# Altium schematic symbol library Regulators.SchLib: 376 symbols (part 1 of 4)
Pins are listed as number, name and electrical type; pins without a type are passive.

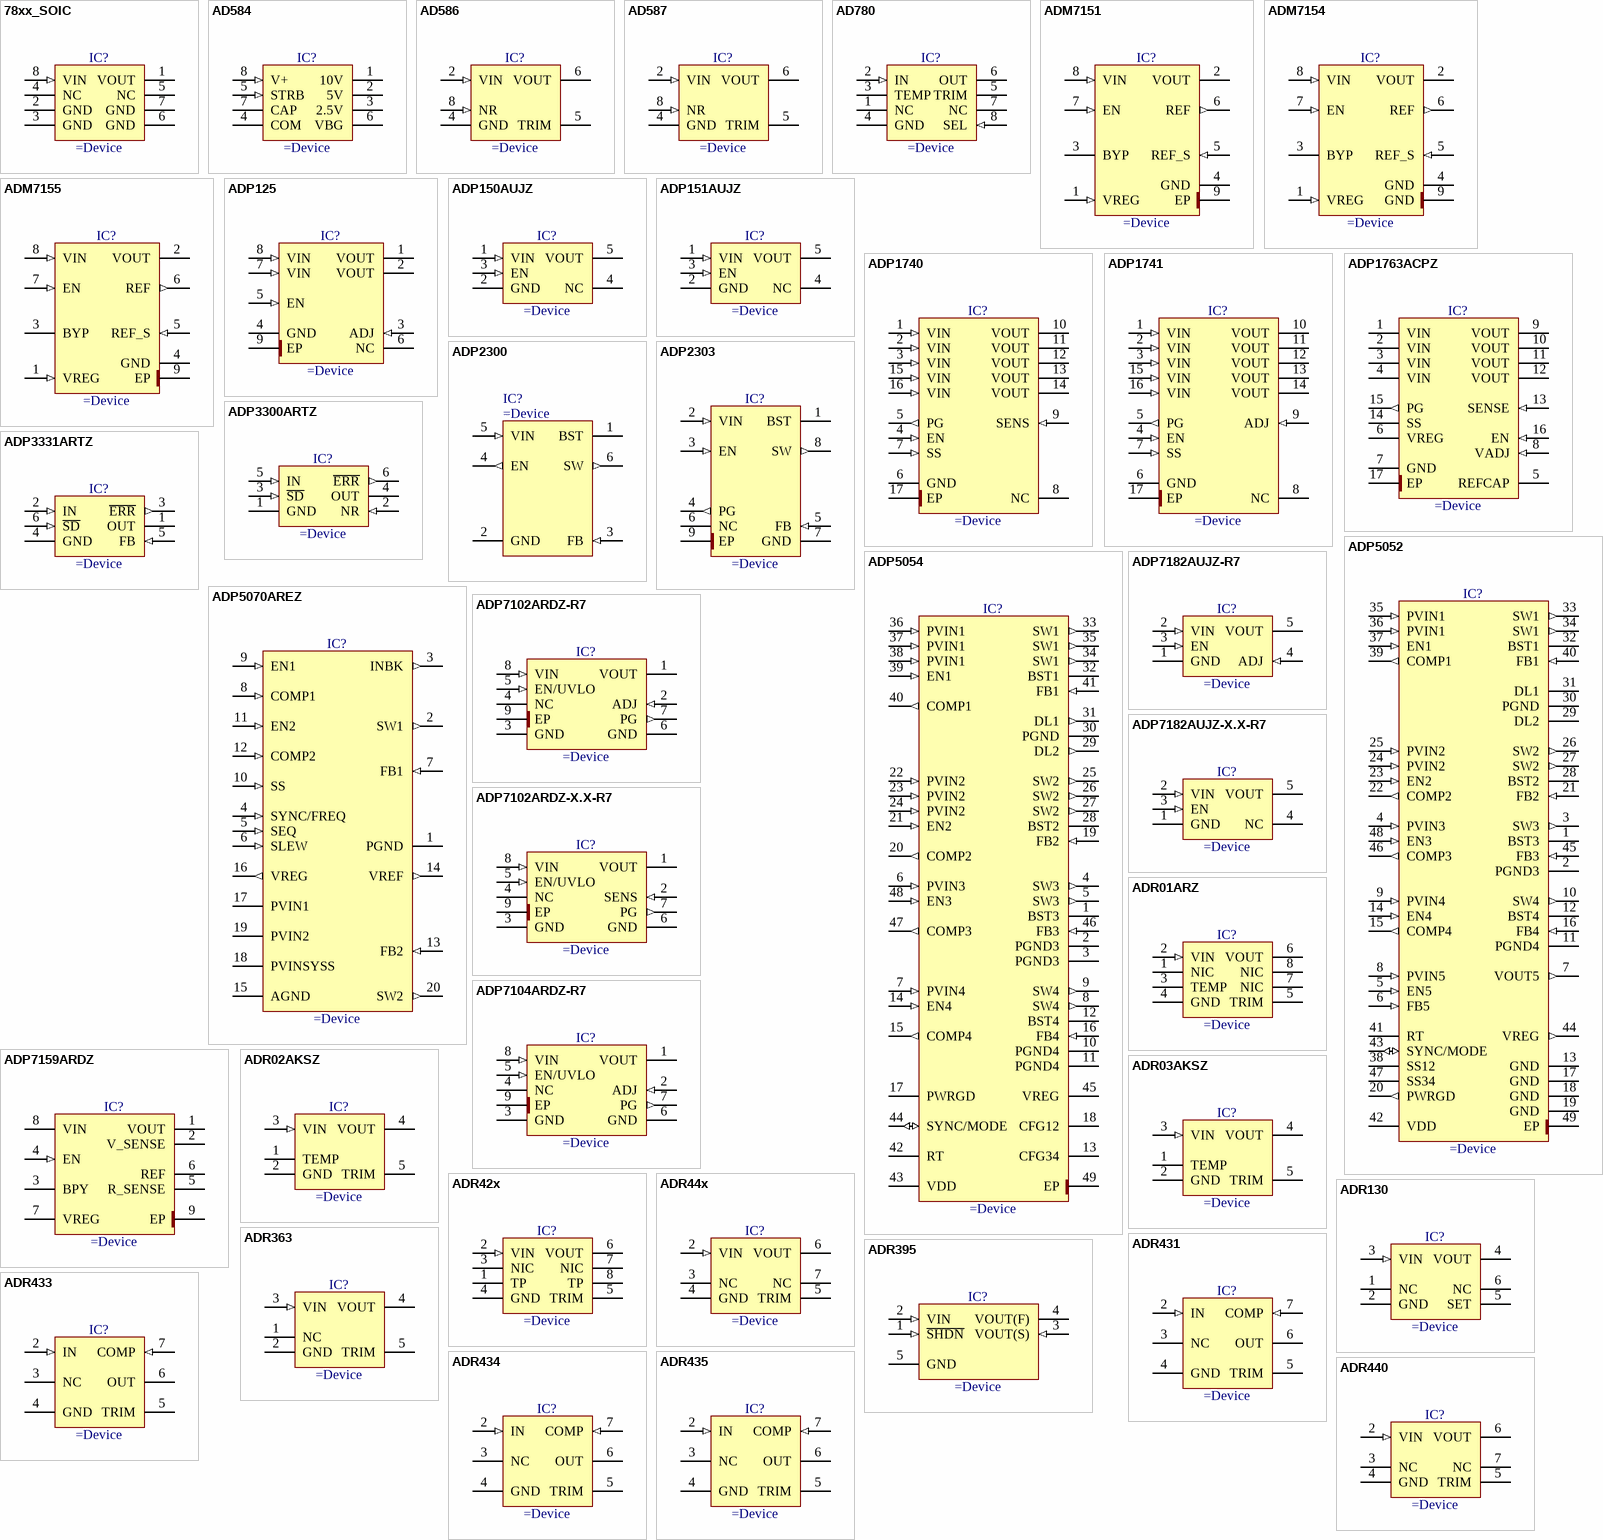
[diagram p0: symbols 78xx_SOIC to ADR440]

## 78xx_SOIC
designator IC?
100 mA Positive Voltage Regulators
pins: 1 VOUT (power), 2 GND (power), 3 GND (power), 4 NC, 5 NC, 6 GND (power), 7 GND (power), 8 VIN (in)

## AD584
designator IC?
Pin Programmable Precision Voltage Reference
pins: 1 10V (power), 2 5V (power), 3 2.5V (power), 4 COM (power), 5 STRB (in), 6 VBG (power), 7 CAP, 8 V+ (in)

## AD586
designator IC?
High Precision 5V Voltage Reference
pins: 2 VIN (in), 4 GND (power), 5 TRIM, 6 VOUT (power), 8 NR (in)

## AD587
designator IC?
High Precision 10V Voltage Reference
pins: 2 VIN (in), 4 GND (power), 5 TRIM, 6 VOUT (power), 8 NR (in)

## AD780
designator IC?
2.5V/3.0V High Precision Reference
pins: 1 NC, 2 IN (in), 3 TEMP, 4 GND (power), 5 TRIM, 6 OUT (power), 7 NC, 8 SEL (in)

## ADM7151
designator IC?
800 mA Ultralow Noise, High PSRR, RF Linear Regulator
pins: 1 VREG (in), 2 VOUT (power), 3 BYP, 4 GND (power), 5 REF_S (in), 6 REF (out), 7 EN (in), 8 VIN (in), 9 EP (power)

## ADM7154
designator IC?
800 mA Ultralow Noise, High PSRR, RF Linear Regulator
pins: 1 VREG (in), 2 VOUT (power), 3 BYP, 4 GND (power), 5 REF_S (in), 6 REF (out), 7 EN (in), 8 VIN (in), 9 GND (power)

## ADM7155
designator IC?
600mA Ultralow Noise, High PSRR, RF Adjustable Linear Regulator
pins: 1 VREG (in), 2 VOUT (power), 3 BYP, 4 GND (power), 5 REF_S (in), 6 REF (out), 7 EN (in), 8 VIN (in), 9 EP (power)

## ADP125
designator IC?
5.5 V Input, 500 mA, Low Quiescent Current, CMOS Linear Regulator
pins: 1 VOUT (power), 2 VOUT (power), 3 ADJ (in), 4 GND (power), 5 EN (in), 6 NC, 7 VIN (in), 8 VIN (in), 9 EP (power)

## ADP150AUJZ
designator IC?
Ultralow Noise, 150 mA CMOS Linear Regulator
pins: 1 VIN (in), 2 GND (power), 3 EN (in), 4 NC, 5 VOUT (power)

## ADP151AUJZ
designator IC?
Ultralow Noise, 200 mA CMOS Linear Regulator
pins: 1 VIN (in), 2 GND (power), 3 EN (in), 4 NC, 5 VOUT (power)

## ADP1740
designator IC?
2A, Low-Dropout Linear Regulator
pins: 1 VIN (in), 2 VIN (in), 3 VIN (in), 4 EN (in), 5 PG (out), 6 GND (power), 7 SS (in), 8 NC, 9 SENS (in), 10 VOUT (power), 11 VOUT (power), 12 VOUT (power), 13 VOUT (power), 14 VOUT (power), 15 VIN (in), 16 VIN (in), 17 EP (power)

## ADP1741
designator IC?
2A, 0.75V to 3.0V Adjustable, Low-Dropout Linear Regulator
pins: 1 VIN (in), 2 VIN (in), 3 VIN (in), 4 EN (in), 5 PG (out), 6 GND (power), 7 SS (in), 8 NC, 9 ADJ (in), 10 VOUT (power), 11 VOUT (power), 12 VOUT (power), 13 VOUT (power), 14 VOUT (power), 15 VIN (in), 16 VIN (in), 17 EP (power)

## ADP1763ACPZ
designator IC?
0.5V to 1.5V, 3A, Low VIN, Low Noise, CMOS Linear Regulator
pins: 1 VIN (power), 2 VIN (power), 3 VIN (power), 4 VIN (power), 5 REFCAP, 6 VREG (power), 7 GND (power), 8 VADJ (in), 9 VOUT (power), 10 VOUT (power), 11 VOUT (power), 12 VOUT (power), 13 SENSE (in), 14 SS, 15 PG (out), 16 EN (in), 17 EP (power)

## ADP2300
designator IC?
1.2A, 20V, 700KHz, Nonsynchronous Step-Down Regulator
pins: 1 BST, 2 GND (power), 3 FB (in), 4 EN (out), 5 VIN (in), 6 SW (out)
1 alternate drawing of the same symbol

## ADP2303
designator IC?
3A, 20V, 700kHz Nonsynchronous Step-Down Regulator
pins: 1 BST, 2 VIN (in), 3 EN (in), 4 PG (out), 5 FB (in), 6 NC, 7 GND (power), 8 SW (out), 9 EP (power)
1 alternate drawing of the same symbol

## ADP3300ARTZ
designator IC?
High Accuracy anyCAP® 50 mA Low Dropout Linear Regulator
pins: 1 GND (power), 2 NR (in), 3 ~{SD} (in), 4 OUT (power), 5 IN (in), 6 ~{ERR} (out)

## ADP3331ARTZ
designator IC?
Adjustable Output Ultralow IQ, 200 mA, anyCAP® Low Dropout Regulator
pins: 1 OUT (power), 2 IN (in), 3 ~{ERR} (out), 4 GND (power), 5 FB (in), 6 ~{SD} (in)

## ADP5052
designator IC?
5-Channel Integrated Power Solution with Quad buck Regulators and 200mA LDO Regulator
pins: 1 BST3 (power), 2 PGND3 (power), 3 SW3 (out), 4 PVIN3 (in), 5 EN5 (in), 6 FB5 (in), 7 VOUT5 (out), 8 PVIN5 (in), 9 PVIN4 (in), 10 SW4 (out), 11 PGND4 (power), 12 BST4 (power), 13 GND (power), 14 EN4 (in), 15 COMP4 (out), 16 FB4 (in), 17 GND (power), 18 GND (power), 19 GND (power), 20 PWRGD (out), 21 FB2 (in), 22 COMP2 (out), 23 EN2 (in), 24 PVIN2 (in), 25 PVIN2 (in), 26 SW2 (out), 27 SW2 (out), 28 BST2 (power), 29 DL2, 30 PGND (power), 31 DL1, 32 BST1 (power), 33 SW1 (out), 34 SW1 (out), 35 PVIN1 (in), 36 PVIN1 (in), 37 EN1 (in), 38 SS12, 39 COMP1 (out), 40 FB1 (in), 41 RT, 42 VDD (power), 43 SYNC/MODE (io), 44 VREG (out), 45 FB3 (in), 46 COMP3 (out), 47 SS34, 48 EN3 (in), 49 EP (power)
1 alternate drawing of the same symbol

## ADP5054
designator IC?
Quad Buck Regulator Integrated Power Solution
pins: 1 BST3 (power), 2 PGND3 (power), 3 PGND3 (power), 4 SW3 (out), 5 SW3 (out), 6 PVIN3 (in), 7 PVIN4 (in), 8 SW4 (out), 9 SW4 (out), 10 PGND4 (power), 11 PGND4 (power), 12 BST4 (power), 13 CFG34, 14 EN4 (in), 15 COMP4 (out), 16 FB4 (in), 17 PWRGD (power), 18 CFG12, 19 FB2 (in), 20 COMP2 (out), 21 EN2 (in), 22 PVIN2 (in), 23 PVIN2 (in), 24 PVIN2 (in), 25 SW2 (out), 26 SW2 (out), 27 SW2 (out), 28 BST2 (power), 29 DL2 (out), 30 PGND (power), 31 DL1 (out), 32 BST1 (power), 33 SW1 (out), 34 SW1 (out), 35 SW1 (out), 36 PVIN1 (in), 37 PVIN1 (in), 38 PVIN1 (in), 39 EN1 (in), 40 COMP1 (out), 41 FB1 (in), 42 RT, 43 VDD (power), 44 SYNC/MODE (io), 45 VREG (power), 46 FB3 (in), 47 COMP3 (out), 48 EN3 (in), 49 EP (power)
1 alternate drawing of the same symbol

## ADP5070AREZ
designator IC?
1A/0.6A, DC-to-DC Switching Regulator with Independent Positive and Negative Outputs
pins: 1 PGND (power), 2 SW1 (out), 3 INBK (out), 4 SYNC/FREQ (in), 5 SEQ (in), 6 SLEW (in), 7 FB1 (in), 8 COMP1 (in), 9 EN1 (in), 10 SS (in), 11 EN2 (in), 12 COMP2 (in), 13 FB2 (in), 14 VREF (out), 15 AGND (power), 16 VREG (out), 17 PVIN1 (power), 18 PVINSYSS (power), 19 PVIN2 (power), 20 SW2 (out)

## ADP7102ARDZ-R7
designator IC?
1.22V to 19V, 300mA, Low Noise, CMOS LDO Adjustable Linear Regulator
pins: 1 VOUT (power), 2 ADJ (in), 3 GND (power), 4 NC, 5 EN/UVLO (in), 6 GND (power), 7 PG (out), 8 VIN (in), 9 EP (power)

## ADP7102ARDZ-X.X-R7
designator IC?
300 mA, Low Noise, CMOS LDO Linear Regulator
pins: 1 VOUT (power), 2 SENS (in), 3 GND (power), 4 NC, 5 EN/UVLO (in), 6 GND (power), 7 PG (out), 8 VIN (in), 9 EP (power)

## ADP7104ARDZ-R7
designator IC?
20V, 500mA, Low Noise, CMOS LDO Linear Regulator
pins: 1 VOUT (power), 2 ADJ (in), 3 GND (power), 4 NC, 5 EN/UVLO (in), 6 GND (power), 7 PG (out), 8 VIN (in), 9 EP (power)

## ADP7159ARDZ
designator IC?
2A, Ultralow Noise, High PSRR, RF Linear Regulator
pins: 1 VOUT (power), 2 V_SENSE (power), 3 BPY, 4 EN (in), 5 R_SENSE (power), 6 REF (power), 7 VREG, 8 VIN (power), 9 EP (power)

## ADP7182AUJZ-R7
designator IC?
-1.22V to -27V, -200mA, Adjustable, Low Noise, Negative Linear Regulator
pins: 1 GND (power), 2 VIN (in), 3 EN (in), 4 ADJ (in), 5 VOUT (power)

## ADP7182AUJZ-X.X-R7
designator IC?
–5V, 200 mA, Low Noise, Linear Regulator
pins: 1 GND (power), 2 VIN (in), 3 EN (in), 4 NC, 5 VOUT (power)

## ADR01ARZ
designator IC?
Ultracompact, Precision 10.0V Voltage References
pins: 1 NIC, 2 VIN (in), 3 TEMP, 4 GND (power), 5 TRIM, 6 VOUT (power), 7 NIC, 8 NIC

## ADR02AKSZ
designator IC?
Ultracompact, Precision 5.0V Voltage References
pins: 1 TEMP, 2 GND (power), 3 VIN (in), 4 VOUT (power), 5 TRIM

## ADR03AKSZ
designator IC?
Ultracompact, Precision 2.5V Voltage References
pins: 1 TEMP, 2 GND (power), 3 VIN (in), 4 VOUT (power), 5 TRIM

## ADR42x
designator IC?
Ultraprecision, Low Noise, 2.048 V/2.500 V/  3.00 V/5.00 V XFET Voltage References
pins: 1 TP, 2 VIN (in), 3 NIC, 4 GND (power), 5 TRIM, 6 VOUT (power), 7 NIC, 8 TP

## ADR44x
designator IC?
5V Ultralow Noise, LDO XFET Voltage References with Current Sink and Source
pins: 2 VIN (in), 3 NC, 4 GND (power), 5 TRIM, 6 VOUT (power), 7 NC

## ADR130
designator IC?
±25ppm/°C, Precision Series Sub-Band Gap Voltage Reference
pins: 1 NC, 2 GND (power), 3 VIN (in), 4 VOUT (power), 5 SET, 6 NC

## ADR363
designator IC?
3V, ±25ppm/°C, ±6mV Low Power, Low Noise Voltage References with Sink/Source Capability
pins: 1 NC, 2 GND (power), 3 VIN (in), 4 VOUT (power), 5 TRIM

## ADR395
designator IC?
5V Micropower, Low Noise Precision Voltage References with Shutdown
pins: 1 ~{SHDN} (in), 2 VIN (in), 3 VOUT(S) (in), 4 VOUT(F) (power), 5 GND (power)

## ADR431
designator IC?
2.5V ±0.12% 10ppm/°C Ultralow Noise XFET Voltage References with Current Sink and Source Capability
pins: 2 IN (in), 3 NC, 4 GND (power), 5 TRIM, 6 OUT (power), 7 COMP (in)

## ADR433
designator IC?
3.000V ±0.05% 3ppm/°C Ultralow Noise XFET Voltage Reference with Current Sink and Source Capability
pins: 2 IN (in), 3 NC, 4 GND (power), 5 TRIM, 6 OUT (power), 7 COMP (in)

## ADR434
designator IC?
4.096V ±0.04% 3ppm/°C 4.096V Ultralow Noise XFET Voltage References with Current Sink and Source Capability
pins: 2 IN (in), 3 NC, 4 GND (power), 5 TRIM, 6 OUT (power), 7 COMP (in)

## ADR435
designator IC?
5V Ultralow Noise XFET Voltage References with Current Sink and Source Capability
pins: 2 IN (in), 3 NC, 4 GND (power), 5 TRIM, 6 OUT (power), 7 COMP (in)

## ADR440
designator IC?
2.048V Ultralow Noise, LDO XFET Voltage Reference with Current Sink and Source
pins: 2 VIN (in), 3 NC, 4 GND (power), 5 TRIM, 6 VOUT (power), 7 NC

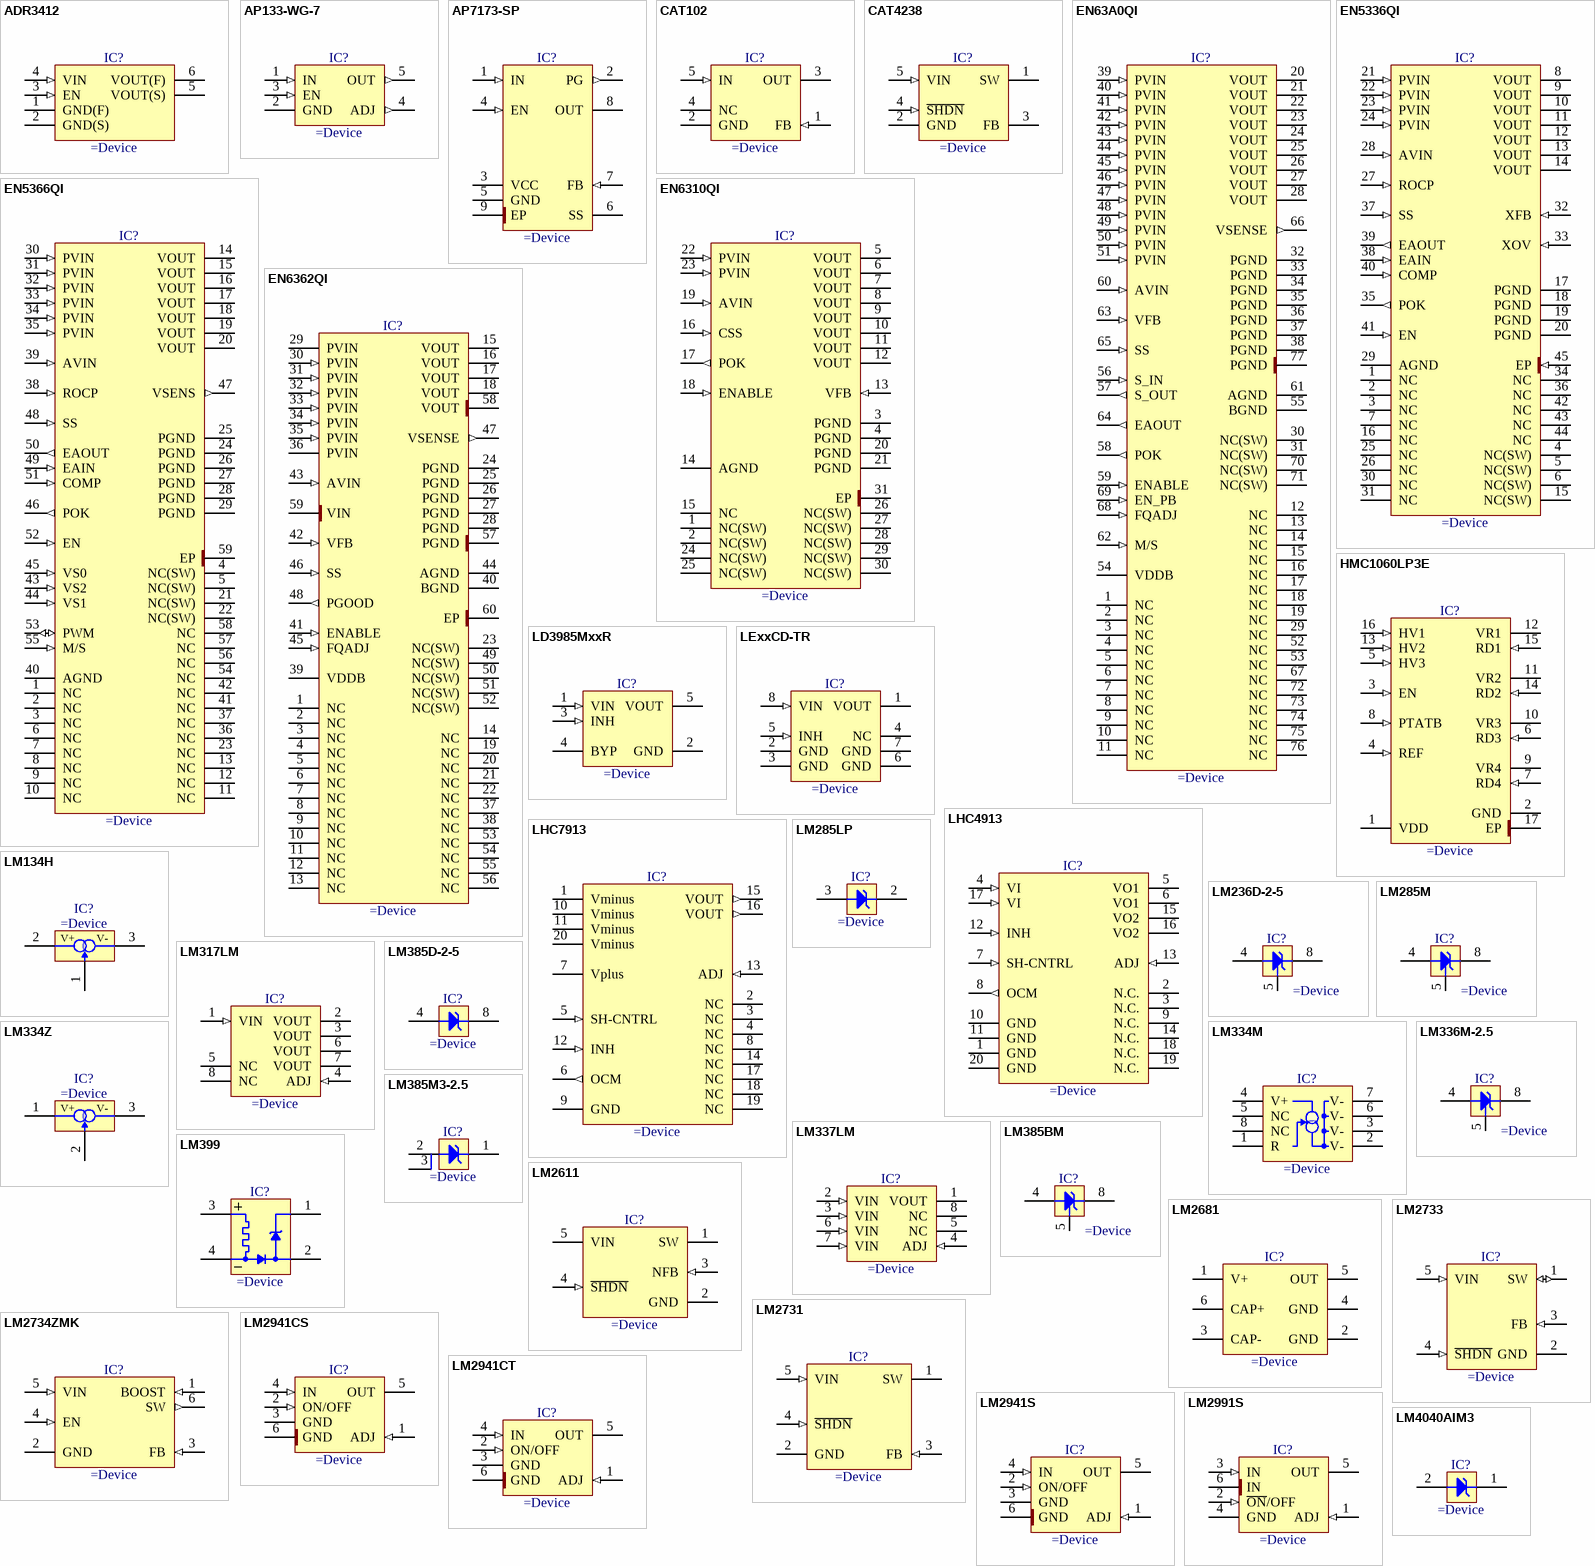
[diagram p1: symbols ADR3412 to LM4040AIM3]

## ADR3412
designator IC?
1.2V Micropower, High Accuracy Voltage References
pins: 1 GND(F) (power), 2 GND(S) (power), 3 EN (in), 4 VIN (in), 5 VOUT(S) (power), 6 VOUT(F) (power)

## AP133-WG-7
designator IC?
300mA, Low Quiecent Current, Fast Transient Low Dropout Linear Regulator
pins: 1 IN (in), 2 GND (power), 3 EN (in), 4 ADJ (out), 5 OUT (out)

## AP7173-SP
designator IC?
1.5A 0.8V to 3.3V Low-Dropout Linear Regulator with Programmable Soft-Start
pins: 1 IN (in), 2 PG (out), 3 VCC (power), 4 EN (in), 5 GND (power), 6 SS, 7 FB (in), 8 OUT (power), 9 EP (power)

## CAT102
designator IC?
Precision, Adjustable Shunt Regulator (600mV Reference)
pins: 1 FB (in), 2 GND (power), 3 OUT (power), 4 NC, 5 IN (in)

## CAT4238
designator IC?
(Up to 5.5V) Input  to (0 to 38V) Output, 600mA, 1MHz DC-DC  Step-Up Converters (Ideal For Driving LEDs)
pins: 1 SW (power), 2 GND (power), 3 FB, 4 ~{SHDN} (in), 5 VIN (in)

## EN63A0QI
designator IC?
12A Highly Integrated Synchronous DC-DC Buck with Integrated Inductor
pins: 1 NC, 2 NC, 3 NC, 4 NC, 5 NC, 6 NC, 7 NC, 8 NC, 9 NC, 10 NC, 11 NC, 12 NC, 13 NC, 14 NC (power), 15 NC, 16 NC, 17 NC, 18 NC, 19 NC (power), 20 VOUT (power), 21 VOUT (power), 22 VOUT (power), 23 VOUT (power), 24 VOUT (power), 25 VOUT (power), 26 VOUT (power), 27 VOUT (power), 28 VOUT (power), 29 NC (power), 30 NC(SW), 31 NC(SW), 32 PGND (power), 33 PGND (power), 34 PGND (power), 35 PGND (power), 36 PGND (power), 37 PGND (power), 38 PGND (power), 39 PVIN (in), 40 PVIN (in), 41 PVIN (in), 42 PVIN (in), 43 PVIN (in), 44 PVIN (in), 45 PVIN (in), 46 PVIN (in), 47 PVIN (in), 48 PVIN (in), 49 PVIN (in), 50 PVIN (in), 51 PVIN (in), 52 NC, 53 NC, 54 VDDB (power), 55 BGND (power), 56 S_IN (in), 57 S_OUT (out), 58 POK (out), 59 ENABLE (in), 60 AVIN (in), 61 AGND (power), 62 M/S (in), 63 VFB (in), 64 EAOUT (out), 65 SS (in), 66 VSENSE (out), 67 NC, 68 FQADJ (in), 69 EN_PB (in), 70 NC(SW), 71 NC(SW), 72 NC, 73 NC, 74 NC (power), 75 NC, 76 NC, 77 PGND (power)

## EN5336QI
designator IC?
3A Voltage Mode Synchronous Buck PWM DC-DC Converter with Integrated Inductor External Feedback Output Voltage Programming
pins: 1 NC, 2 NC, 3 NC, 4 NC(SW), 5 NC(SW), 6 NC(SW), 7 NC, 8 VOUT (power), 9 VOUT (power), 10 VOUT (power), 11 VOUT (power), 12 VOUT (power), 13 VOUT (power), 14 VOUT (power), 15 NC(SW), 16 NC, 17 PGND (power), 18 PGND (power), 19 PGND (power), 20 PGND (power), 21 PVIN (in), 22 PVIN (in), 23 PVIN (in), 24 PVIN (in), 25 NC, 26 NC, 27 ROCP (in), 28 AVIN (in), 29 AGND (power), 30 NC, 31 NC, 32 XFB (in), 33 XOV (in), 34 NC, 35 POK (out), 36 NC, 37 SS (in), 38 EAIN (in), 39 EAOUT (out), 40 COMP (in), 41 EN (in), 42 NC, 43 NC, 44 NC, 45 EP (in)

## EN5366QI
designator IC?
6A Voltage Mode Synchronous Buck PWM DC-DC Converter with Integrated Inductor 3-Pin VID Output Voltage Select
pins: 1 NC, 2 NC, 3 NC, 4 NC(SW), 5 NC(SW), 6 NC, 7 NC, 8 NC, 9 NC, 10 NC, 11 NC, 12 NC, 13 NC, 14 VOUT (power), 15 VOUT (power), 16 VOUT (power), 17 VOUT (power), 18 VOUT (power), 19 VOUT (power), 20 VOUT (power), 21 NC(SW), 22 NC(SW), 23 NC, 24 PGND (power), 25 PGND (power), 26 PGND (power), 27 PGND (power), 28 PGND (power), 29 PGND (power), 30 PVIN (in), 31 PVIN (in), 32 PVIN (in), 33 PVIN (in), 34 PVIN (in), 35 PVIN (in), 36 NC, 37 NC, 38 ROCP (in), 39 AVIN (in), 40 AGND (power), 41 NC, 42 NC, 43 VS2 (in), 44 VS1 (in), 45 VS0 (in), 46 POK (out), 47 VSENS (out), 48 SS (in), 49 EAIN (in), 50 EAOUT (out), 51 COMP (in), 52 EN (in), 53 PWM (io), 54 NC, 55 M/S (in), 56 NC, 57 NC, 58 NC, 59 EP (power)

## EN6310QI
designator IC?
1A Voltage Mode Synchronous Buck PWM DC-DC Converter With Integrated Inductor
pins: 1 NC(SW), 2 NC(SW), 3 PGND (power), 4 PGND (power), 5 VOUT (power), 6 VOUT (power), 7 VOUT (power), 8 VOUT (power), 9 VOUT (power), 10 VOUT (power), 11 VOUT (power), 12 VOUT (power), 13 VFB (in), 14 AGND (power), 15 NC, 16 CSS (in), 17 POK (out), 18 ENABLE (in), 19 AVIN (in), 20 PGND (power), 21 PGND (power), 22 PVIN (in), 23 PVIN (in), 24 NC(SW), 25 NC(SW), 26 NC(SW), 27 NC(SW), 28 NC(SW), 29 NC(SW) (power), 30 NC(SW), 31 EP (power)

## EN6362QI
designator IC?
6A Highly Integrated Synchronous DC-DC Buck with Integrated Inductor
pins: 1 NC, 2 NC, 3 NC, 4 NC, 5 NC, 6 NC, 7 NC, 8 NC, 9 NC, 10 NC, 11 NC, 12 NC, 13 NC, 14 NC (power), 15 VOUT (power), 16 VOUT (power), 17 VOUT (power), 18 VOUT (power), 19 NC (power), 20 NC (power), 21 NC, 22 NC, 23 NC(SW), 24 PGND (power), 25 PGND (power), 26 PGND (power), 27 PGND (power), 28 PGND (power), 29 PVIN (power), 30 PVIN (in), 31 PVIN (in), 32 PVIN (in), 33 PVIN (in), 34 PVIN (in), 35 PVIN (in), 36 PVIN, 37 NC, 38 NC, 39 VDDB (power), 40 BGND (power), 41 ENABLE (in), 42 VFB (in), 43 AVIN (in), 44 AGND (power), 45 FQADJ (in), 46 SS (in), 47 VSENSE (out), 48 PGOOD (out), 49 NC(SW), 50 NC(SW), 51 NC(SW), 52 NC(SW), 53 NC, 54 NC, 55 NC, 56 NC, 57 PGND (power), 58 VOUT (power), 59 VIN (power), 60 EP (power)

## HMC1060LP3E
designator IC?
Quad Low Noise High PSRR Linear Voltage Regulator
pins: 1 VDD (power), 2 GND (power), 3 EN (in), 4 REF (in), 5 HV3 (in), 6 RD3 (in), 7 RD4 (in), 8 PTATB (in), 9 VR4 (power), 10 VR3 (power), 11 VR2 (power), 12 VR1 (power), 13 HV2 (in), 14 RD2 (in), 15 RD1 (in), 16 HV1 (in), 17 EP (power)

## LD3985MxxR
designator IC?
Ultra low drop-low noise BiCMOS voltage regulators low ESR capacitors compatible
pins: 1 VIN (in), 2 GND (power), 3 INH (in), 4 BYP, 5 VOUT (power)

## LExxCD-TR
designator IC?
Very Low Dropout Voltage Regulator with Inhibit Function
pins: 1 VOUT (power), 2 GND (power), 3 GND (power), 4 NC, 5 INH (in), 6 GND (power), 7 GND (power), 8 VIN (in)

## LHC4913
designator IC?
3A Positive Low Drop Adjustable Voltage Regulator With Inhibit Function
pins: 1 GND (power), 2 N.C., 3 N.C., 4 VI (in), 5 VO1 (power), 6 VO1 (power), 7 SH-CNTRL (in), 8 OCM (out), 9 N.C., 10 GND, 11 GND, 12 INH (in), 13 ADJ (in), 14 N.C., 15 VO2 (power), 16 VO2 (power), 17 VI (in), 18 N.C., 19 N.C., 20 GND (power)

## LHC7913
designator IC?
3A Negative Low Drop Adjustable Voltage Regulator With Inhibit Function
pins: 1 Vminus (power), 2 NC, 3 NC, 4 NC, 5 SH-CNTRL (in), 6 OCM (out), 7 Vplus (power), 8 NC, 9 GND (power), 10 Vminus (power), 11 Vminus (power), 12 INH (in), 13 ADJ (in), 14 NC, 15 VOUT (out), 16 VOUT (out), 17 NC, 18 NC, 19 NC, 20 Vminus (power)

## LM134H
designator IC?
Adjustable Current Sources
pins: 1 R, 2 R, 3 V-
text: V+

## LM236D-2-5
designator IC?
2.5V Integrated Reference Circuit
pins: 4 A, 5 Adj (power), 8 C

## LM285LP
designator IC?
Micropower Voltage References
pins: 2 C, 3 A

## LM285M
designator IC?
1.24V to 5.30V Adjustable Micropower Voltage References
pins: 4 A, 5 Adj (power), 8 C

## LM317LM
designator IC?
1.2V to 37V, 100mA Adjustable Positive Regulator
pins: 1 VIN (in), 2 VOUT (power), 3 VOUT (power), 4 ADJ (in), 5 NC, 6 VOUT (power), 7 VOUT (power), 8 NC

## LM334M
designator IC?
Adjustable Current Sources
pins: 1 R, 2 V-, 3 V-, 4 V+, 5 NC, 6 V-, 7 V-, 8 NC

## LM334Z
designator IC?
Adjustable Current Sources
pins: 1 V+, 2 R, 3 V-

## LM336M-2.5
designator IC?
Reference Diode
pins: 4 A, 5 Adj, 8 C

## LM337LM
designator IC?
1.2V to 37V, 100mA Adjustable Negative Regulator
pins: 1 VOUT (power), 2 VIN (in), 3 VIN (in), 4 ADJ (in), 5 NC, 6 VIN (in), 7 VIN (in), 8 NC

## LM385BM
designator IC?
1.24V to 5.30V Adjustable Micropower Voltage Reference
pins: 4 A, 5 Adj, 8 C

## LM385D-2-5
designator IC?
Micropower Voltage References
pins: 4 A, 8 C

## LM385M3-2.5
designator IC?
Micropower Voltage Reference Diode
pins: 1 C, 2 A, 3 A

## LM399
designator IC?
6.95V Precision Shunt Reference
pins: 1 C, 2 A, 3 +, 4 -

## LM2611
designator IC?
1.4MHz Cuk Converter
pins: 1 SW (power), 2 GND (power), 3 NFB (in), 4 ~{SHDN} (in), 5 VIN (power)

## LM2681
designator IC?
Switched Capacitor Voltage Converter
pins: 1 V+ (power), 2 GND (power), 3 CAP-, 4 GND (power), 5 OUT (power), 6 CAP+

## LM2731
designator IC?
0.0.6MHz Boost Converters With 22V Internal FET Switch
pins: 1 SW (oc), 2 GND (power), 3 FB (in), 4 ~{SHDN} (in), 5 VIN (in)

## LM2733
designator IC?
0.6/1.6 MHz Boost Converters With 40V Internal FET Switch in SOT-23
pins: 1 SW (io) "Drain of the internal FET switch.", 2 GND (power) "Analog and power ground.", 3 FB (in) "Feedback point that connects to external resistive divider.", 4 ~{SHDN} (in) "Shutdown control input. Connect to VIN if this feature is not used.", 5 VIN (in) "Analog and power input."

## LM2734ZMK
designator IC?
1A Load Step-Down DC-DC Regulator
pins: 1 BOOST (in), 2 GND (power), 3 FB (in), 4 EN (in), 5 VIN (in), 6 SW (out)

## LM2941CS
designator IC?
5V to 20V, 1A Low Dropout Adjustable Regulator
pins: 1 ADJ (in), 2 ON/OFF (in), 3 GND (power), 4 IN (in), 5 OUT (power), 6 GND (power)

## LM2941CT
designator IC?
5V to 20V, 1A Low Dropout Adjustable Regulator
pins: 1 ADJ (in), 2 ON/OFF (in), 3 GND (power), 4 IN (in), 5 OUT (power), 6 GND (power)

## LM2941S
designator IC?
5V to 20V, 1A Low Dropout Adjustable Regulator
pins: 1 ADJ (in), 2 ON/OFF (in), 3 GND (power), 4 IN (in), 5 OUT (power), 6 GND (power)

## LM2991S
designator IC?
-3V to -24V, 1A Negative Low Dropout Adjustable Regulator
pins: 1 ADJ (in), 2 ~{ON}/OFF (in), 3 IN (in), 4 GND (power), 5 OUT (power), 6 IN (power)

## LM4040AIM3
designator IC?
Precision Micropower Shunt Voltage Reference
pins: 1 C, 2 A

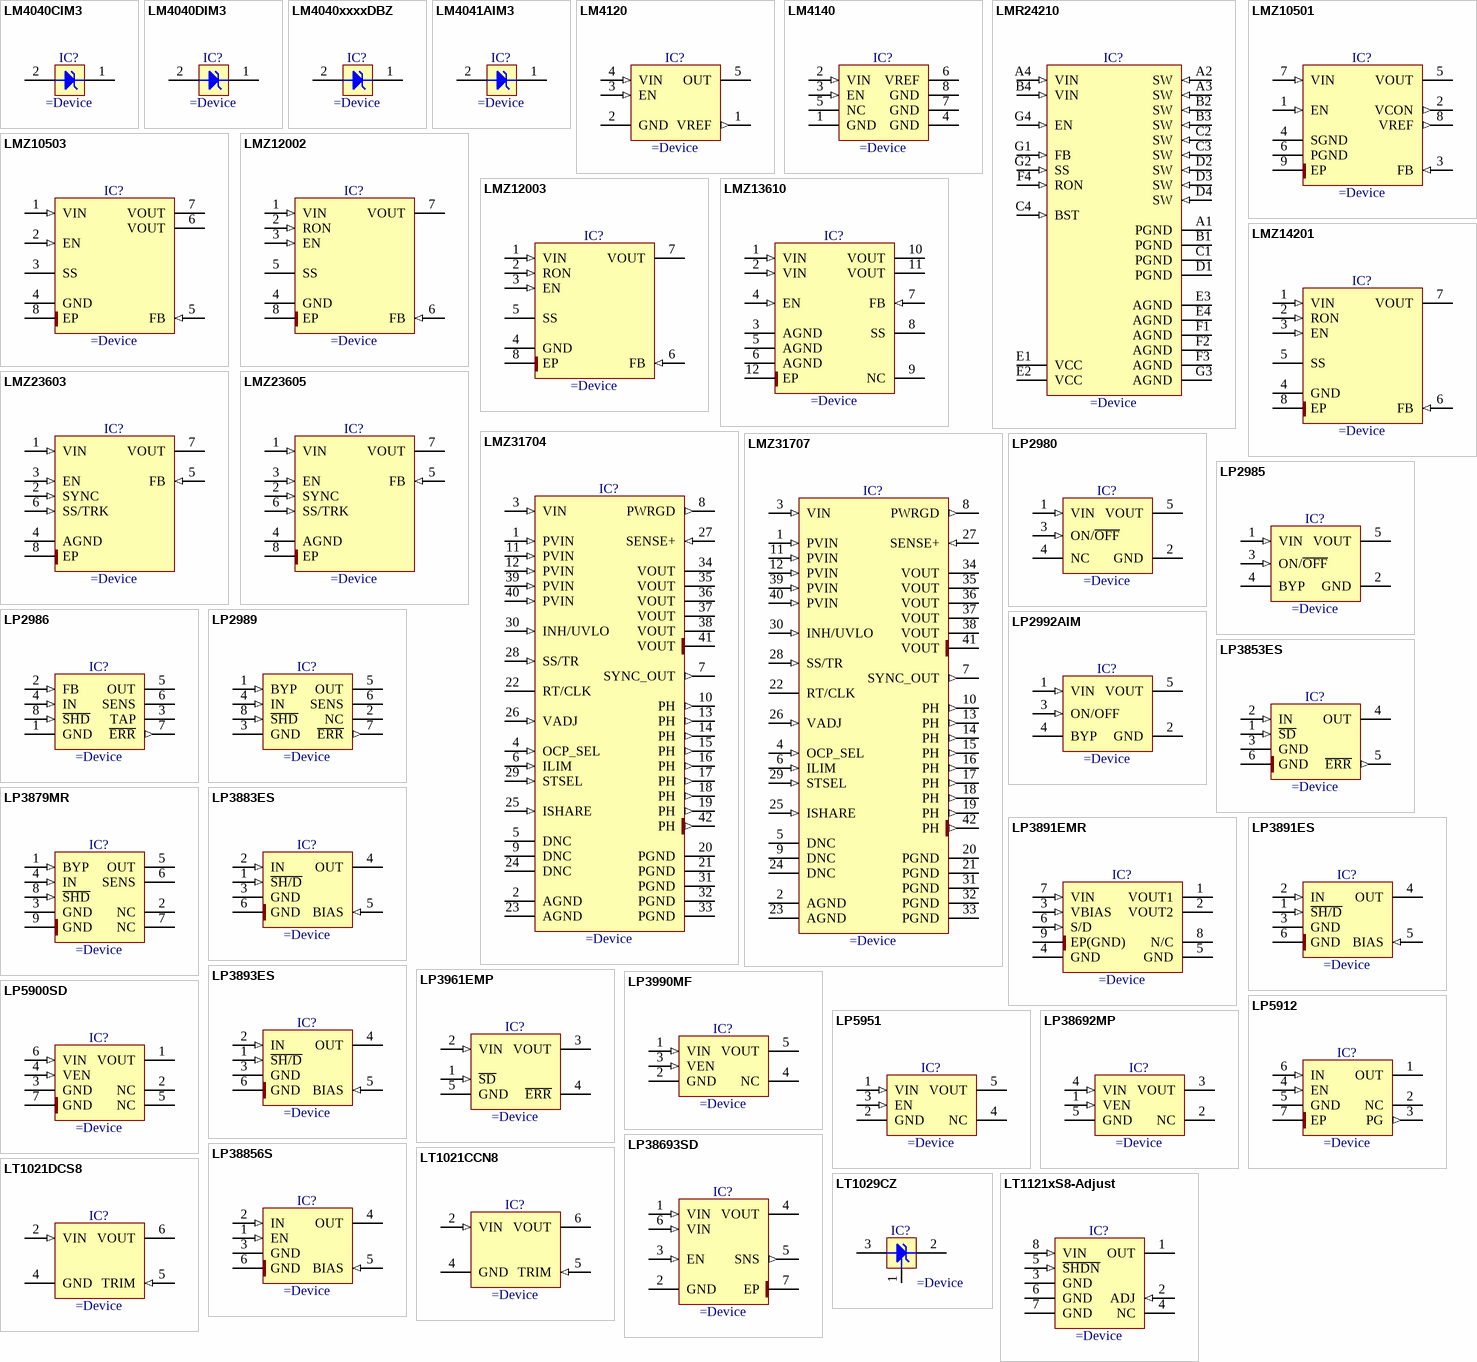
[diagram p2: symbols LM4040CIM3 to LT1121xS8-Adjust]

## LM4040CIM3
designator IC?
Precision Micropower Shunt Voltage Reference
pins: 1 C, 2 A

## LM4040DIM3
designator IC?
Precision Micropower Shunt Voltage Reference
pins: 1 C, 2 A

## LM4040xxxxDBZ
designator IC?
Precision Micropower Shunt Voltage Reference
pins: 1 C, 2 A

## LM4041AIM3
designator IC?
Precision Micropower Shunt Voltage Reference
pins: 1 C, 2 A

## LM4120
designator IC?
Precision Micropower Low Dropout Voltage Reference
pins: 1 VREF (out), 2 GND (power), 3 EN (in), 4 VIN (in), 5 OUT (power)

## LM4140
designator IC?
High Precision Low Noise Low Dropout Voltage Reference
pins: 1 GND (power), 2 VIN (in), 3 EN (in), 4 GND (power), 5 NC, 6 VREF (power), 7 GND (power), 8 GND (power)

## LMR24210
designator IC?
1A SIMPLE SWITCHER® 42Vin, Step-Down Voltage Regulator
pins: A1 PGND (power), A2 SW (in), A3 SW (in), A4 VIN (in), B1 PGND (power), B2 SW (in), B3 SW (in), B4 VIN (in), C1 PGND (power), C2 SW (in), C3 SW (in), C4 BST (in), D1 PGND (power), D2 SW (in), D3 SW (in), D4 SW (in), E1 VCC (power), E2 VCC (power), E3 AGND (power), E4 AGND (power), F1 AGND (power), F2 AGND (power), F3 AGND (power), F4 RON (in), G1 FB (in), G2 SS (in), G3 AGND (power), G4 EN (in)

## LMZ10501
designator IC?
1A SIMPLE SWITCHER® Nano Module with 5.5V Maximum Input Voltage
pins: 1 EN (in), 2 VCON (out), 3 FB (in), 4 SGND (power), 5 VOUT (power), 6 PGND (power), 7 VIN (in), 8 VREF (out), 9 EP (power)

## LMZ10503
designator IC?
3A SIMPLE SWITCHER® Power Module with 5.5V Maximum Input Voltage
pins: 1 VIN (in), 2 EN (in), 3 SS, 4 GND (power), 5 FB (in), 6 VOUT (power), 7 VOUT (power), 8 EP (power)

## LMZ12002
designator IC?
2A SIMPLE SWITCHER® Power Module with 20V Maximum Input Voltage
pins: 1 VIN (in), 2 RON (in), 3 EN (in), 4 GND (power), 5 SS, 6 FB (in), 7 VOUT (power), 8 EP (power)

## LMZ12003
designator IC?
3A SIMPLE SWITCHER® Power Module with 20V Maximum Input Voltage
pins: 1 VIN (in), 2 RON (in), 3 EN (in), 4 GND (power), 5 SS, 6 FB (in), 7 VOUT (power), 8 EP (power)

## LMZ13610
designator IC?
10A SIMPLE SWITCHER® Power Module with 36V Maximum Input Voltage
pins: 1 VIN (in), 2 VIN (in), 3 AGND (power), 4 EN (in), 5 AGND (power), 6 AGND (power), 7 FB (in), 8 SS, 9 NC, 10 VOUT (power), 11 VOUT (power), 12 EP (power)

## LMZ14201
designator IC?
1A SIMPLE SWITCHER® Power Module with 42V Maximum Input Voltage
pins: 1 VIN (in), 2 RON (in), 3 EN (in), 4 GND (power), 5 SS, 6 FB (in), 7 VOUT (power), 8 EP (power)

## LMZ23603
designator IC?
3A SIMPLE SWITCHER® Power Module with 37V Maximum Input Voltage
pins: 1 VIN (in), 2 SYNC (in), 3 EN (in), 4 AGND (power), 5 FB (in), 6 SS/TRK (in), 7 VOUT (power), 8 EP (power)

## LMZ23605
designator IC?
5A SIMPLE SWITCHER® Power Module with 37V Maximum Input Voltage
pins: 1 VIN (in), 2 SYNC (in), 3 EN (in), 4 AGND (power), 5 FB (in), 6 SS/TRK (in), 7 VOUT (power), 8 EP (power)

## LMZ31704
designator IC?
4A SIMPLE SWITCHER® Power Module with 2.95V-17V Input and Current Sharing
pins: 1 PVIN (in), 2 AGND (power), 3 VIN (in), 4 OCP_SEL (in), 5 DNC, 6 ILIM (in), 7 SYNC_OUT (out), 8 PWRGD (out), 9 DNC, 10 PH (out), 11 PVIN (in), 12 PVIN (in), 13 PH (out), 14 PH (out), 15 PH (out), 16 PH (out), 17 PH (out), 18 PH (out), 19 PH (out), 20 PGND (power), 21 PGND (power), 22 RT/CLK (oc), 23 AGND (power), 24 DNC, 25 ISHARE (in), 26 VADJ (in), 27 SENSE+ (in), 28 SS/TR (in), 29 STSEL (in), 30 INH/UVLO (in), 31 PGND (power), 32 PGND (power), 33 PGND (power), 34 VOUT (power), 35 VOUT (power), 36 VOUT (power), 37 VOUT (power), 38 VOUT (power), 39 PVIN (in), 40 PVIN (in), 41 VOUT (power), 42 PH (out)

## LMZ31707
designator IC?
7A SIMPLE SWITCHER® Power Module with 2.95V-17V Input and Current Sharing in QFN Package
pins: 1 PVIN (in), 2 AGND (power), 3 VIN (in), 4 OCP_SEL (in), 5 DNC, 6 ILIM (in), 7 SYNC_OUT (out), 8 PWRGD (out), 9 DNC, 10 PH (out), 11 PVIN (in), 12 PVIN (in), 13 PH (out), 14 PH (out), 15 PH (out), 16 PH (out), 17 PH (out), 18 PH (out), 19 PH (out), 20 PGND (power), 21 PGND (power), 22 RT/CLK (oc), 23 AGND (power), 24 DNC, 25 ISHARE (in), 26 VADJ (in), 27 SENSE+ (in), 28 SS/TR (in), 29 STSEL (in), 30 INH/UVLO (in), 31 PGND (power), 32 PGND (power), 33 PGND (power), 34 VOUT (power), 35 VOUT (power), 36 VOUT (power), 37 VOUT (power), 38 VOUT (power), 39 PVIN (in), 40 PVIN (in), 41 VOUT (power), 42 PH (out)

## LP2980
designator IC?
Micropower 50mA Ultra Low-Dropout Regulator
pins: 1 VIN (in), 2 GND (power), 3 ON/~{OFF} (in), 4 NC, 5 VOUT (power)

## LP2985
designator IC?
150mA Low-Noise Low-Dropout Regulator Whit Shutdown
pins: 1 VIN (in), 2 GND (power), 3 ON/~{OFF} (in), 4 BYP, 5 VOUT (power)

## LP2986
designator IC?
Micropower, 200 mA Ultra Low-Dropout Fixed or Adjustable Voltage Regulator
pins: 1 GND (power), 2 FB (in), 3 TAP, 4 IN (in), 5 OUT (power), 6 SENS, 7 ~{ERR} (out), 8 ~{SHD} (in)

## LP2989
designator IC?
Micropower/Low Noise, 500 mA Ultra Low-Dropout Regulator
pins: 1 BYP (in), 2 NC, 3 GND (power), 4 IN (in), 5 OUT (power), 6 SENS, 7 ~{ERR} (out), 8 ~{SHD} (in)

## LP2992AIM
designator IC?
Micropower 250 mA Low-Noise Ultra Low-Dropout Regulator in SOT-23
pins: 1 VIN (in), 2 GND (power), 3 ON/OFF (in), 4 BYP, 5 VOUT (power)

## LP3853ES
designator IC?
3A Fast-Response Ultra Low Dropout Linear Regulators
pins: 1 ~{SD} (in), 2 IN (in), 3 GND (power), 4 OUT (power), 5 ~{ERR} (out), 6 GND (power)

## LP3879MR
designator IC?
Micropower 800mA Low Noise "Ceramic Stable" Voltage Regulator for Low Voltage Applications
pins: 1 BYP (in), 2 NC, 3 GND (power), 4 IN (in), 5 OUT (power), 6 SENS, 7 NC, 8 ~{SHD} (in), 9 GND (power)

## LP3883ES
designator IC?
3A Fast-Response Ultra Low Dropout Linear Regulators
pins: 1 ~{SH/D} (in), 2 IN (in), 3 GND (power), 4 OUT (power), 5 BIAS (in), 6 GND (power)

## LP3891EMR
designator IC?
0.8A Fast-Response Ultra Low Dropout Linear Regulator
pins: 1 VOUT1 (power), 2 VOUT2 (power), 3 VBIAS (in), 4 GND (power), 5 GND (power), 6 S/D (in), 7 VIN (in), 8 N/C, 9 EP(GND) (power)

## LP3891ES
designator IC?
0.8A Fast-Response Ultra Low Dropout Linear Regulator
pins: 1 ~{SH/D} (in), 2 IN (in), 3 GND (power), 4 OUT (power), 5 BIAS (in), 6 GND (power)

## LP3893ES
designator IC?
3A Fast-Response Ultra Low Dropout Linear Regulators
pins: 1 ~{SH/D} (in), 2 IN (in), 3 GND (power), 4 OUT (power), 5 BIAS (in), 6 GND (power)

## LP3961EMP
designator IC?
800mA Fast Ultra Low Dropout Linear Regulators
pins: 1 ~{SD} (in), 2 VIN (in), 3 VOUT (power), 4 ~{ERR}, 5 GND (power)

## LP3990MF
designator IC?
1.8V, 150mA Linear Voltage Regulator For Digital Applications
pins: 1 VIN (in), 2 GND (power), 3 VEN (in), 4 NC, 5 VOUT (power)

## LP5900SD
designator IC?
Ultra Low Noise, 150 mA Linear Regulator for RF/Analog Circuits Requires No Bypass Capacitor
pins: 1 VOUT (power), 2 NC, 3 GND (power), 4 VEN (in), 5 NC, 6 VIN (in), 7 GND (power)

## LP5912
designator IC?
3.3V, 500mA Low-Noise, Low-IQ LDO
pins: 1 OUT (power), 2 NC, 3 PG (out), 4 EN (in), 5 GND (power), 6 IN (in), 7 EP (power)

## LP5951
designator IC?
150mA Micropower Low-Dropout CMOS Voltage Regulator
pins: 1 VIN (in), 2 GND (power), 3 EN (in), 4 NC, 5 VOUT (power)

## LP38692MP
designator IC?
1A Low Dropout CMOS Linear Regulators Stable with Ceramic Output Capacitors
pins: 1 VEN (in), 2 NC, 3 VOUT (power), 4 VIN (in), 5 GND (power)

## LP38693SD
designator IC?
1A Low Dropout CMOS Linear Regulators Stable with Ceramic Output Capacitors
pins: 1 VIN (in), 2 GND (power), 3 EN (in), 4 VOUT (power), 5 SNS (out), 6 VIN (in), 7 EP (power)

## LP38856S
designator IC?
3A Fast-Response High-Accuracy LDO Linear Regulator With Enable From The PowerWise® Family
pins: 1 EN (in), 2 IN (in), 3 GND (power), 4 OUT (power), 5 BIAS (in), 6 GND (power)

## LT1021CCN8
designator IC?
3ppm/°C, 5V Precision Reference
pins: 2 VIN (in), 4 GND (power), 5 TRIM (in), 6 VOUT (power)

## LT1021DCS8
designator IC?
3ppm/°C, 5V Precision Reference
pins: 2 VIN (in), 4 GND (power), 5 TRIM (in), 6 VOUT (power)

## LT1029CZ
designator IC?
5V Bandgap Reference
pins: 1 Adj, 2 C, 3 A

## LT1121xS8-Adjust
designator IC?
3.75V, 150mA Micropower Low Dropout Regulators with Shutdown
pins: 1 OUT (power), 2 ADJ (in), 3 GND (power), 4 NC, 5 ~{SHDN} (in), 6 GND (power), 7 GND (power), 8 VIN (in)

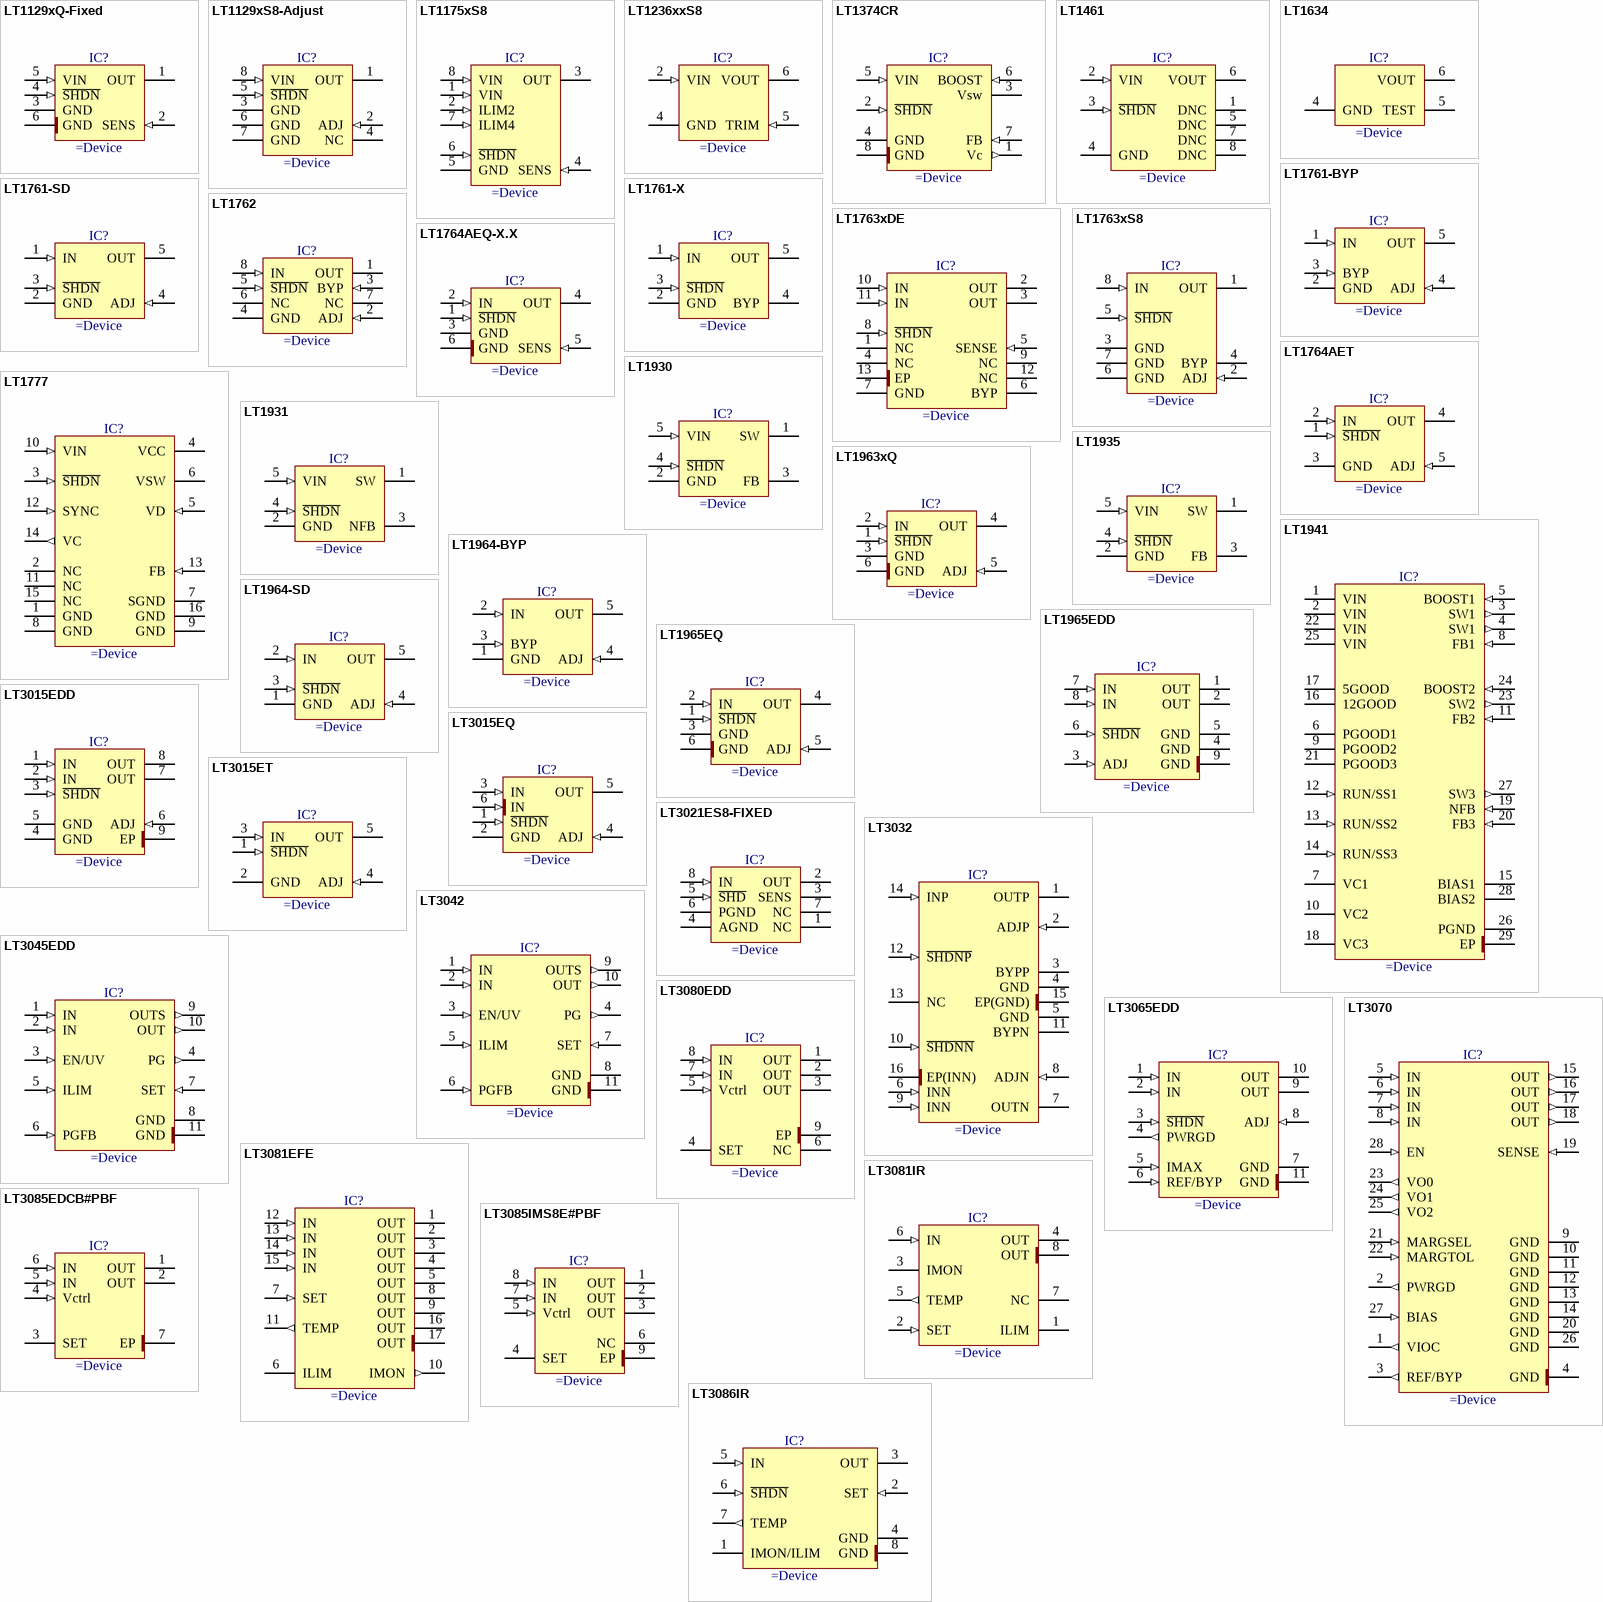
[diagram p3: symbols LT1129xQ-Fixed to LT3086IR]

## LT1129xQ-Fixed
designator IC?
3.3V, 700mA Micropower Low Dropout Regulator with Shutdown
pins: 1 OUT (power), 2 SENS (in), 3 GND (power), 4 ~{SHDN} (in), 5 VIN (in), 6 GND (power)

## LT1129xS8-Adjust
designator IC?
3.3V, 700mA Micropower Low Dropout Regulator with Shutdown
pins: 1 OUT (power), 2 ADJ (in), 3 GND (power), 4 NC, 5 ~{SHDN} (in), 6 GND (power), 7 GND (power), 8 VIN (in)

## LT1175xS8
designator IC?
5V 500mA Negative Low Dropout Micropower Regulator
pins: 1 VIN (in), 2 ILIM2 (in), 3 OUT (power), 4 SENS (in), 5 GND (power), 6 ~{SHDN} (in), 7 ILIM4 (in), 8 VIN (in)

## LT1236xxS8
designator IC?
5ppm/°C, Precision Reference
pins: 2 VIN (in), 4 GND (power), 5 TRIM (in), 6 VOUT (power)

## LT1374CR
designator IC?
4.5A 500kHz Step-Down Switching Regulator
pins: 1 Vc (out), 2 ~{SHDN} (in), 3 Vsw (power), 4 GND (power), 5 VIN (in), 6 BOOST (in), 7 FB (in), 8 GND (power)

## LT1461
designator IC?
4-Terminal Regulator 2=VIN 3=S\H\D\N\ 4=GND 6=VOUT
pins: 1 DNC (power), 2 VIN (in), 3 ~{SHDN} (in), 4 GND (power), 5 DNC (power), 6 VOUT (power), 7 DNC (power), 8 DNC (power)

## LT1634
designator IC?
1.25V, 10ppm/°C, Micropower Precision Shunt Voltage Reference
pins: 4 GND (power), 5 TEST, 6 VOUT (power)

## LT1761-BYP
designator IC?
100mA, Low Noise, LDO Micropower Adjustable Regulator in SOT-23
pins: 1 IN (in), 2 GND (power), 3 BYP (in), 4 ADJ (in), 5 OUT (power)

## LT1761-SD
designator IC?
100mA, Low Noise, LDO Micropower Adjustable Regulator in SOT-23
pins: 1 IN (in), 2 GND (power), 3 ~{SHDN} (in), 4 ADJ (in), 5 OUT (power)

## LT1761-X
designator IC?
100mA, Low Noise, LDO Micropower Regulator in SOT-23
pins: 1 IN (in), 2 GND (power), 3 ~{SHDN} (in), 4 BYP, 5 OUT (power)

## LT1762
designator IC?
150mA, Low Noise, Adjustable LDO Micropower Regulator
pins: 1 OUT (power), 2 ADJ (in), 3 BYP (in), 4 GND (power), 5 ~{SHDN} (in), 6 NC, 7 NC, 8 IN (in)

## LT1763xDE
designator IC?
1.22V to 20V 500mA, Low Noise, LDO Adjustable Micropower Regulator
pins: 1 NC, 2 OUT (power), 3 OUT (power), 4 NC, 5 SENSE (in), 6 BYP, 7 GND (power), 8 ~{SHDN} (in), 9 NC, 10 IN (in), 11 IN (in), 12 NC, 13 EP (power)

## LT1763xS8
designator IC?
1.22V to 20V 500mA, Low Noise, LDO Adjustable Micropower Regulator
pins: 1 OUT (power), 2 ADJ (in), 3 GND (power), 4 BYP, 5 ~{SHDN} (in), 6 GND (power), 7 GND (power), 8 IN (in)

## LT1764AEQ-X.X
designator IC?
3A, Fast Transient Response, Low Noise, LDO Regulators
pins: 1 ~{SHDN} (in), 2 IN (in), 3 GND (power), 4 OUT (power), 5 SENS (in), 6 GND (power)

## LT1764AET
designator IC?
3A, Fast Transient Response, Low Noise, LDO Regulator
pins: 1 ~{SHDN} (in), 2 IN (in), 3 GND (power), 4 OUT (power), 5 ADJ (in)

## LT1777
designator IC?
1A Low Noise Step-Down Switching Regulator
pins: 1 GND (power), 2 NC, 3 ~{SHDN} (in), 4 VCC (power), 5 VD (in), 6 VSW (power), 7 SGND (power), 8 GND (power), 9 GND (power), 10 VIN (in), 11 NC, 12 SYNC (in), 13 FB (in), 14 VC (out), 15 NC, 16 GND (power)

## LT1930
designator IC?
1.2MHz/2.2MHz Step-Up DC/DC Converters in ThinSOT
pins: 1 SW (power), 2 GND (power), 3 FB, 4 ~{SHDN} (in), 5 VIN (in)

## LT1931
designator IC?
1.2MHz/2.2MHz Inverting DC/DC Converters in ThinSOT
pins: 1 SW (power), 2 GND (power), 3 NFB, 4 ~{SHDN} (in), 5 VIN (in)

## LT1935
designator IC?
1.2MHz Boost DC/DC Converter in ThinSOT with 2A Switch
pins: 1 SW (power), 2 GND (power), 3 FB, 4 ~{SHDN} (in), 5 VIN (in)

## LT1941
designator IC?
3.5V to 25V, Triple Monolithic Switching Regulator
pins: 1 VIN (power) "The VIN  pins supply current to the LT1941’s internal circuitry and to the internal power switches. This pin must be tied to the same source and locally bypassed.", 2 VIN (power) "The VIN  pins supply current to the LT1941’s internal circuitry and to the internal power switches. This pin must be tied to the same source and locally bypassed.", 3 SW1 (out) "The SW pin is the output of the internal power switch. Connect this pin to the inductors and switching diodes.", 4 SW1 (out) "The SW pin is the output of the internal power switch. Connect this pin to the inductors and switching diodes.", 5 BOOST1 (in) "The BOOST pin is used to provide drive voltages, higher than the input voltage, to the internal bipolar NPN power switches. Tie through a diode from VOUT or from VIN .", 6 PGOOD1 (oc) "The PGOOD pin is the open-collector output of an internal comparator. PGOOD remains low until the FB pin is within 10% of the final regulation voltage. As well as indicating output regulation, the PGOOD pin can sequence the (See Datasheet)", 7 VC1 "The VC pin is the output of the internal error amp. The voltage on this pin control the peak switch currents. This pin is normally used to compensate the control loops. Each switching regulator can be shut down by pulling (See Datasheet)", 8 FB1 (in) "The LT1941 regulates each feedback pin to either 0.628 V. Connect the feedback resistor divider taps to this pin.", 9 PGOOD2 (oc) "The PGOOD pin is the open-collector output of an internal comparator. PGOOD remains low until the FB pin is within 10% of the final regulation voltage. As well as indicating output regulation, the PGOOD pin can sequence the (See Datasheet)", 10 VC2 "The VC pin is the output of the internal error amp. The voltage on this pin control the peak switch currents. This pin is normally used to compensate the control loops. Each switching regulator can be shut down by pulling (See Datasheet)", 11 FB2 (in) "The LT1941 regulates each feedback pin to either 0.628 V. Connect the feedback resistor divider taps to this pin.", 12 RUN/SS1 (in) "The RUN/SS pin is used to shut down the individual switching regulators and the internal bias circuits. It also provide a soft-start function. To shut down either regulator, pull the RUN/SS pin to ground with an open drain (See Datasheet)", 13 RUN/SS2 (in) "The RUN/SS pin is used to shut down the individual switching regulators and the internal bias circuits. It also provide a soft-start function. To shut down either regulator, pull the RUN/SS pin to ground with an open drain (See Datasheet)", 14 RUN/SS3 (in) "The RUN/SS pin is used to shut down the individual switching regulators and the internal bias circuits. It also provide a soft-start function. To shut down either regulator, pull the RUN/SS pin to ground with an open drain (See Datasheet)", 15 BIAS1 (power) "The BIAS1 pin supplies the current to the LT1941’s internal regulator. Tie this pin to the lowest available voltage source above 2.35 V (Either VIN , VOUT or any other available supply).", 16 12GOOD (oc) "The 12GOOD pin is the open-collector output of an internal comparator. 12GOOD remains low until V IN is within 10% of 12 V. The pin pulls low when the part is in shutdown. Leave this pin unconnected if unused.", 17 5GOOD (oc) "The 5GOOD pin is the open-collector output of an internal comparator. 5GOOD remains low until V IN is within 10% of 5 V. The pin pulls low when the part is in shutdown. Leave this pin unconnected if unused.", 18 VC3 "The VC pin is the output of the internal error amp. The voltage on this pin control the peak switch currents. This pin is normally used to compensate the control loops. Each switching regulator can be shut down by pulling (See Datasheet)", 19 NFB (in) "The LT1941 contains an op amp confi gured with an output at FB3, noninverting terminal at GND and an inverting terminal at NFB. Connect the feedback resistor network virtual ground at this node if regulating negative (See Datasheet)", 20 FB3 (in) "The LT1941 regulates each feedback pin to either1.25 V. Connect the feedback resistor divider taps to this pin.", 21 PGOOD3 (oc) "The PGOOD pin is the open-collector output of an internal comparator. PGOOD remains low until the FB pin is within 10% of the final regulation voltage. As well as indicating output regulation, the PGOOD pin can sequence the (See Datasheet)", 22 VIN (power) "The VIN  pins supply current to the LT1941’s internal circuitry and to the internal power switches. This pin must be tied to the same source and locally bypassed.", 23 SW2 (out) "The SW pin is the output of the internal power switch. Connect this pin to the inductors and switching diodes.", 24 BOOST2 (in) "The BOOST pin is used to provide drive voltages, higher than the input voltage, to the internal bipolar NPN power switches. Tie through a diode from VOUT or from VIN .", 25 VIN (power) "The VIN  pins supply current to the LT1941’s internal circuitry and to the internal power switches. This pin must be tied to the same source and locally bypassed.", 26 PGND (power) "Tie directly to local ground plane.", 27 SW3 (out) "The SW pin is the output of the internal power switch. Connect this pin to the inductors and switching diodes.", 28 BIAS2 (power) "The BIAS2 pin supplies the current to the driver of SW3. Tie this pin to the lowest available voltage source above 2.5 V (Either VIN , VOUT or any other available supply).", 29 EP (power) "Ground. The underside Exposed Pad metal of the package provides both electrical contact to ground and good thermal contact to the printed circuit board. The Exposed Pad must be soldered to the circuit board ground for proper (See Datasheet)"

## LT1963xQ
designator IC?
1.5A, Fast Transient Response Adjustable LDO Regulators
pins: 1 ~{SHDN} (in), 2 IN (in), 3 GND (power), 4 OUT (power), 5 ADJ (in), 6 GND (power)

## LT1964-BYP
designator IC?
200mA, Low Noise, Low Dropout Negative Micropower Regulator
pins: 1 GND (power), 2 IN (in), 3 BYP (in), 4 ADJ (in), 5 OUT (power)

## LT1964-SD
designator IC?
200mA, Low Noise, Low Dropout Negative Micropower Regulator
pins: 1 GND (power), 2 IN (in), 3 ~{SHDN} (in), 4 ADJ (in), 5 OUT (power)

## LT1965EDD
designator IC?
(3V to 20V) Input to (1.2V to 19.5V) Output, 1.1A, Low Noise, Low Dropout Linear Regulator
pins: 1 OUT (power), 2 OUT (power), 3 ADJ (in), 4 GND (power), 5 GND (power), 6 ~{SHDN} (in), 7 IN (in), 8 IN (in), 9 GND (power)

## LT1965EQ
designator IC?
(3V to 20V) Input to (1.2V to 19.5V) Output, 1.1A, Low Noise, Low Dropout Linear Regulator
pins: 1 ~{SHDN} (in), 2 IN (in), 3 GND (power), 4 OUT (power), 5 ADJ (in), 6 GND (power)

## LT3015EDD
designator IC?
1.5A, Low Noise, Negative Linear Regulator with Precision Current Limit
pins: 1 IN (in), 2 IN (in), 3 ~{SHDN} (in), 4 GND (power), 5 GND (power), 6 ADJ (in), 7 OUT (power), 8 OUT (power), 9 EP (power)

## LT3015EQ
designator IC?
1.5A, Low Noise, Negative Linear Regulator with Precision Current Limit
pins: 1 ~{SHDN} (in), 2 GND (power), 3 IN (in), 4 ADJ (in), 5 OUT (power), 6 IN (in)

## LT3015ET
designator IC?
1.5A, Low Noise, Negative Linear Regulator with Precision Current Limit
pins: 1 ~{SHDN} (in), 2 GND (power), 3 IN (in), 4 ADJ (in), 5 OUT (power)

## LT3021ES8-FIXED
designator IC?
500mA, Low Voltage, Very Low Dropout Linear Regulator
pins: 1 NC, 2 OUT (power), 3 SENS, 4 AGND (power), 5 ~{SHD} (in), 6 PGND (power), 7 NC, 8 IN (in)

## LT3032
designator IC?
Dual 150mA Positive/Negative Low Noise Low Dropout Linear Regulator
pins: 1 OUTP (power), 2 ADJP (in), 3 BYPP, 4 GND (power), 5 GND (power), 6 INN (in), 7 OUTN (power), 8 ADJN (in), 9 INN (in), 10 ~{SHDNN} (in), 11 BYPN, 12 ~{SHDNP} (in), 13 NC, 14 INP (in), 15 EP(GND) (power), 16 EP(INN) (power)

## LT3042
designator IC?
20V, 200mA, Ultralow Noise, Ultrahigh PSRR RF Linear Regulator
pins: 1 IN (in), 2 IN (in), 3 EN/UV (in), 4 PG (out), 5 ILIM (in), 6 PGFB (in), 7 SET (in), 8 GND (power), 9 OUTS (out), 10 OUT (out), 11 GND (power)

## LT3045EDD
designator IC?
20V, 500mA, Ultralow Noise, Ultrahigh PSRR Linear Regulator
pins: 1 IN (in), 2 IN (in), 3 EN/UV (in), 4 PG (out), 5 ILIM (in), 6 PGFB (in), 7 SET (in), 8 GND (power), 9 OUTS (out), 10 OUT (out), 11 GND (power)

## LT3065EDD
designator IC?
45V, 500mA, Low Noise, Linear Regulator With Programmable Current Limit And Power Good
pins: 1 IN (in), 2 IN (in), 3 ~{SHDN} (in), 4 PWRGD (out), 5 IMAX (in), 6 REF/BYP (in), 7 GND (power), 8 ADJ (in), 9 OUT (power), 10 OUT (power), 11 GND (power)

## LT3070
designator IC?
0.8V to 1.8V Programmable Output, 5A, Low Noise, 85mV Dropout, Linear Regulator
pins: 1 VIOC (out), 2 PWRGD (out), 3 REF/BYP (out), 4 GND (power), 5 IN (in), 6 IN (in), 7 IN (in), 8 IN (in), 9 GND (power), 10 GND (power), 11 GND (power), 12 GND (power), 13 GND (power), 14 GND (power), 15 OUT (out), 16 OUT (out), 17 OUT (out), 18 OUT (out), 19 SENSE (in), 20 GND (power), 21 MARGSEL (in), 22 MARGTOL (in), 23 VO0 (out), 24 VO1 (out), 25 VO2 (out), 26 GND (power), 27 BIAS (in), 28 EN (in)

## LT3080EDD
designator IC?
Adjustable 1.1A Single Resistor Low Dropout Regulator
pins: 1 OUT (power), 2 OUT (power), 3 OUT (power), 4 SET, 5 Vctrl (in), 6 NC, 7 IN (in), 8 IN (in), 9 EP (power)

## LT3081EFE
designator IC?
1.2 To 36V, 1.5A Single Resistor Rugged Linear Regulator With Monitors
pins: 1 OUT (power), 2 OUT (power), 3 OUT (power), 4 OUT (power), 5 OUT (power), 6 ILIM, 7 SET (in), 8 OUT (power), 9 OUT (power), 10 IMON (out), 11 TEMP (out), 12 IN (in), 13 IN (in), 14 IN (in), 15 IN (in), 16 OUT (power), 17 OUT (power)

## LT3081IR
designator IC?
1.2V to 36V Input, 0 to 34.5V Output, 1.5A Single Resistor Rugged Adjustable Linear Regulator with Monitors
pins: 1 ILIM, 2 SET (in), 3 IMON, 4 OUT (power), 5 TEMP (out), 6 IN (in), 7 NC, 8 OUT (power)

## LT3085EDCB#PBF
designator IC?
Adjustable 500mA Single Resistor Low Dropout Regulator
pins: 1 OUT (power), 2 OUT (power), 3 SET, 4 Vctrl (in), 5 IN (in), 6 IN (in), 7 EP (power)

## LT3085IMS8E#PBF
designator IC?
Adjustable 500mA Single Resistor Low Dropout Regulator
pins: 1 OUT (power), 2 OUT (power), 3 OUT (power), 4 SET, 5 Vctrl (in), 6 NC, 7 IN (in), 8 IN (in), 9 EP (power)

## LT3086IR
designator IC?
40V, 2.1A Low Dropout Adjustable Linear Regulator with Monitoring and Cable Drop Compensation
pins: 1 IMON/ILIM, 2 SET (in), 3 OUT (power), 4 GND (power), 5 IN (in), 6 ~{SHDN} (in), 7 TEMP (out), 8 GND (power)

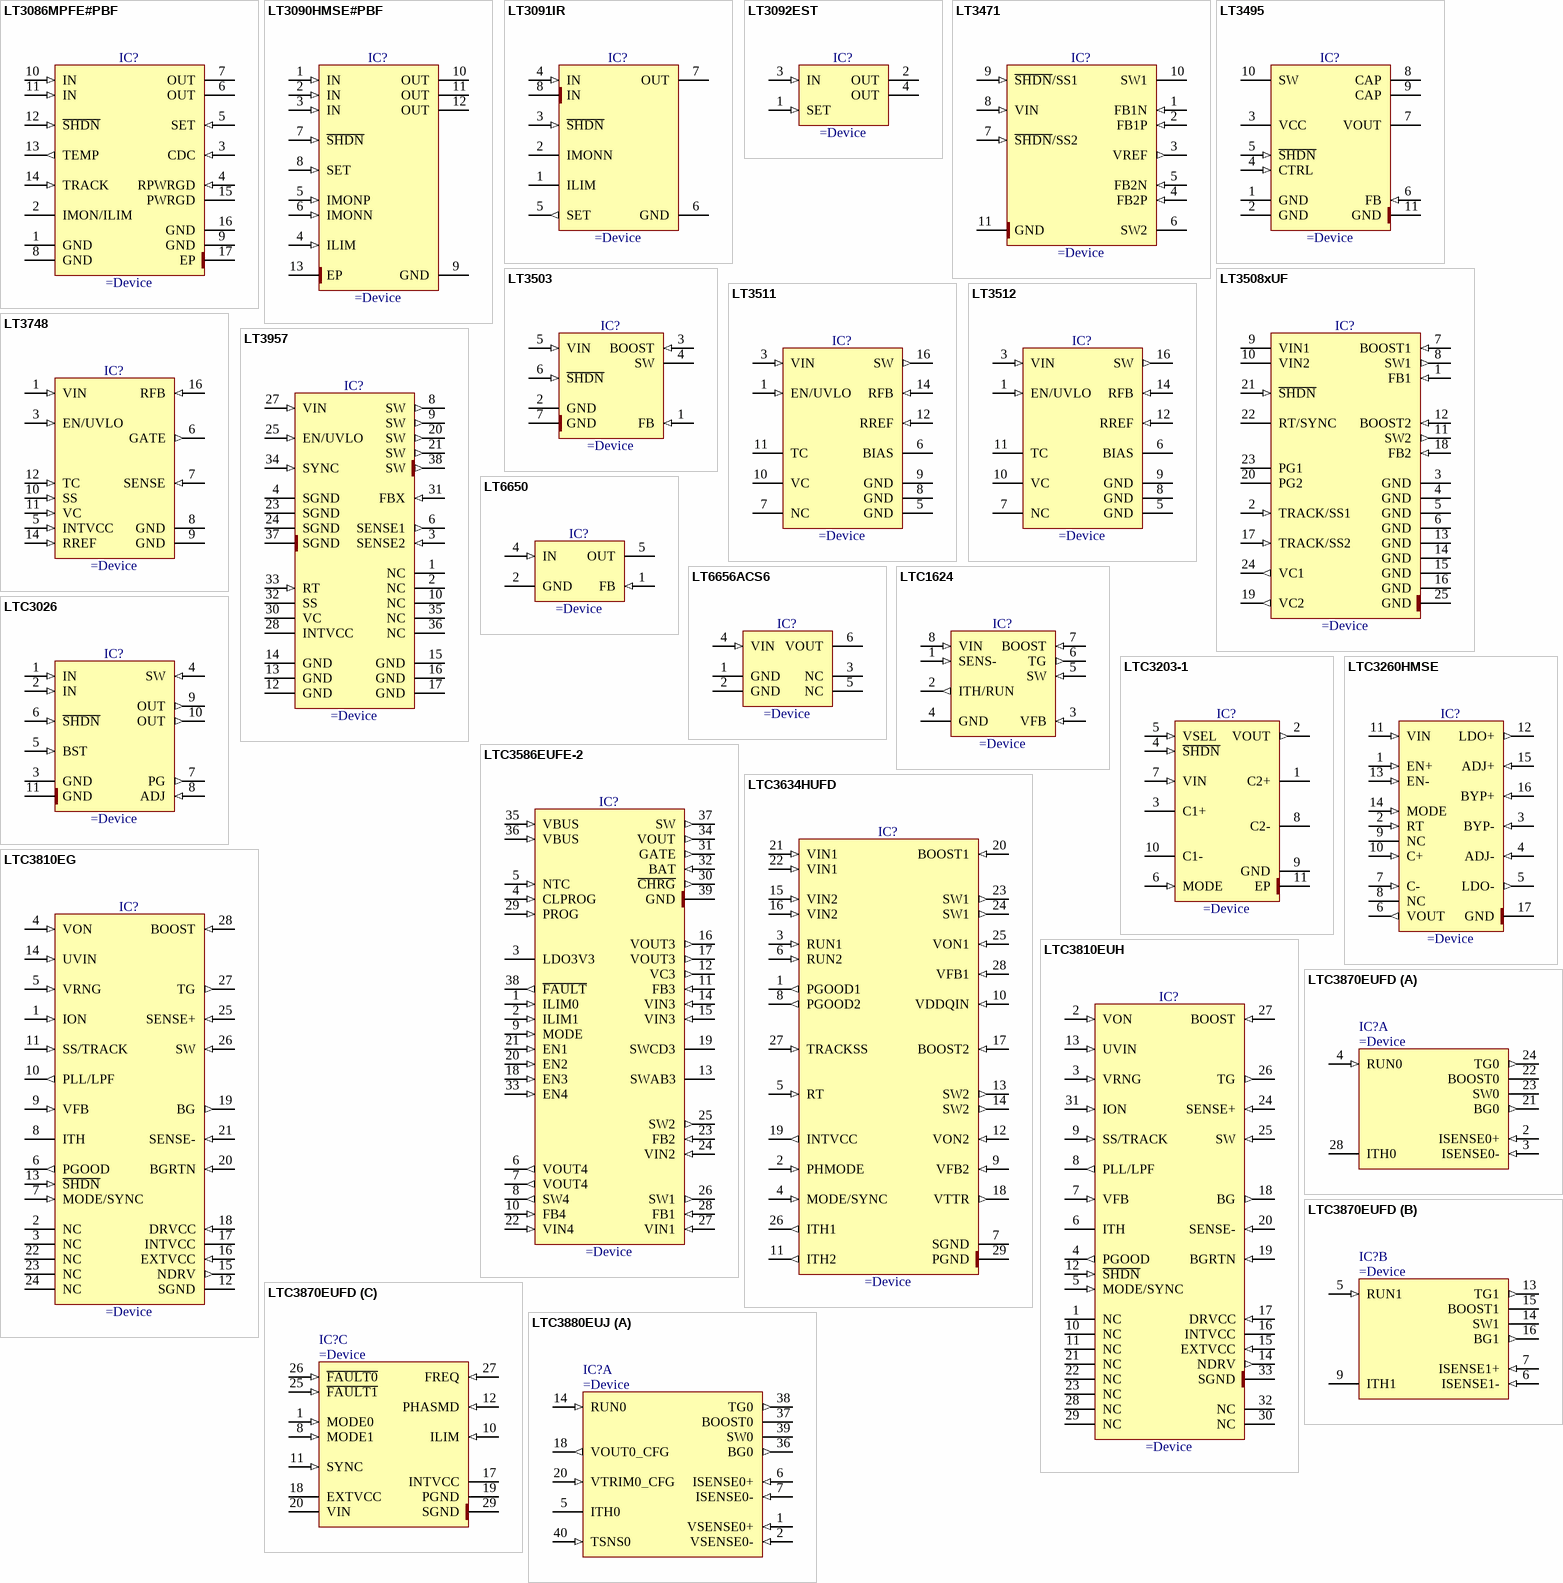
[diagram p4: symbols LT3086MPFE#PBF to LTC3880EUJ]

## LT3086MPFE#PBF
designator IC?
40V, 2.1A Low Dropout Adjustable Linear Regulator with Monitoring and Cable Drop Compensation
pins: 1 GND (power), 2 IMON/ILIM, 3 CDC (in), 4 RPWRGD (in), 5 SET (in), 6 OUT (power), 7 OUT (power), 8 GND (power), 9 GND (power), 10 IN (in), 11 IN (in), 12 ~{SHDN} (in), 13 TEMP (out), 14 TRACK (in), 15 PWRGD (oc), 16 GND (power), 17 EP (power)

## LT3090HMSE#PBF
designator IC?
–36V, 600mA Negative Linear Regulator with Programmable Current Limit
pins: 1 IN (in), 2 IN (in), 3 IN (in), 4 ILIM (in), 5 IMONP (in), 6 IMONN (in), 7 ~{SHDN} (in), 8 SET (in), 9 GND (power), 10 OUT (power), 11 OUT (power), 12 OUT (power), 13 EP (power)

## LT3091IR
designator IC?
-1.5V to 36V Input, 0 to -32V Output, 1.5A Negative Linear Regulator with Programmable Current Limit
pins: 1 ILIM, 2 IMONN, 3 ~{SHDN} (in), 4 IN (in), 5 SET (out), 6 GND (power), 7 OUT (power), 8 IN (power)

## LT3092EST
designator IC?
200mA, Programmable Current Source
pins: 1 SET (in), 2 OUT (power), 3 IN (in), 4 OUT (power)

## LT3471
designator IC?
1.3A, 1.2MHz , Dual Switching Regulator
pins: 1 FB1N (in), 2 FB1P (in), 3 VREF (out), 4 FB2P (in), 5 FB2N (in), 6 SW2 (oc), 7 ~{SHDN}/SS2 (in), 8 VIN (in), 9 ~{SHDN}/SS1 (in), 10 SW1 (oc), 11 GND (power)

## LT3495
designator IC?
Micropower Low Noise Boost Converter with Output Disconnect
pins: 1 GND (power), 2 GND (power), 3 VCC (power), 4 CTRL (in), 5 ~{SHDN} (in), 6 FB (in), 7 VOUT (power), 8 CAP, 9 CAP, 10 SW (oc), 11 GND (power)

## LT3503
designator IC?
1A, 2.2MHz Step-Down Switching Regulator
pins: 1 FB (in), 2 GND (power), 3 BOOST (in), 4 SW (power), 5 VIN (in), 6 ~{SHDN} (in), 7 GND (power)

## LT3508xUF
designator IC?
Dual Monolithic 1.4A Step-Down Switching Regulator
pins: 1 FB1 (in), 2 TRACK/SS1 (in), 3 GND (power), 4 GND (power), 5 GND (power), 6 GND (power), 7 BOOST1 (in), 8 SW1 (out), 9 VIN1 (power), 10 VIN2 (power), 11 SW2 (out), 12 BOOST2 (in), 13 GND (power), 14 GND (power), 15 GND (power), 16 GND (power), 17 TRACK/SS2 (in), 18 FB2 (in), 19 VC2 (out), 20 PG2 (oc), 21 ~{SHDN} (in), 22 RT/SYNC, 23 PG1 (oc), 24 VC1 (out), 25 GND (power)

## LT3511
designator IC?
Monolithic High Voltage Isolated Flyback Converter
pins: 1 EN/UVLO (in), 3 VIN (in), 5 GND (power), 6 BIAS, 7 NC, 8 GND (power), 9 GND (power), 10 VC, 11 TC, 12 RREF (in), 14 RFB (in), 16 SW (out)

## LT3512
designator IC?
Monolithic High Voltage Isolated Flyback Converter
pins: 1 EN/UVLO (in), 3 VIN (in), 5 GND (power), 6 BIAS, 7 NC, 8 GND (power), 9 GND (power), 10 VC, 11 TC, 12 RREF (in), 14 RFB (in), 16 SW (out)

## LT3748
designator IC?
100V Isolated Flyback Controller
pins: 1 VIN (in), 3 EN/UVLO (in), 5 INTVCC (in), 6 GATE (out), 7 SENSE (in), 8 GND (power), 9 GND (power), 10 SS (in), 11 VC (in), 12 TC (in), 14 RREF (in), 16 RFB (in)

## LT3957
designator IC?
Boost, Flyback, SEPIC and Inverting Converter with 5A, 40V Switch
pins: 1 NC, 2 NC, 3 SENSE2 (in), 4 SGND (power), 6 SENSE1 (out), 8 SW (out), 9 SW (out), 10 NC, 12 GND (power), 13 GND (power), 14 GND (power), 15 GND (power), 16 GND (power), 17 GND (power), 20 SW (out), 21 SW (out), 23 SGND (power), 24 SGND (power), 25 EN/UVLO (in), 27 VIN (in), 28 INTVCC, 30 VC, 31 FBX (in), 32 SS, 33 RT (in), 34 SYNC (in), 35 NC, 36 NC, 37 SGND (power), 38 SW (out)

## LT6650
designator IC?
Micropower, 400mV Reference with Rail-to-Rail Buffer Amplifier
pins: 1 FB (in), 2 GND (power), 4 IN (in), 5 OUT (power)

## LT6656ACS6
designator IC?
1uA Precision Voltage Reference
pins: 1 GND (power), 2 GND (power), 3 NC, 4 VIN (in), 5 NC, 6 VOUT (power)

## LTC1624
designator IC?
High Efficiency SO-8 N-Channel Switching Regulator Controller
pins: 1 SENS- (in), 2 ITH/RUN (out), 3 VFB (in), 4 GND (power), 5 SW (in), 6 TG (out), 7 BOOST (in), 8 VIN (in)

## LTC3026
designator IC?
1.14V to 5.5V Input, 0.4V to 2.6V Output, 1.5A Low Input Voltage VLDO Linear Regulator
pins: 1 IN (in), 2 IN (in), 3 GND (power), 4 SW (in), 5 BST (in), 6 ~{SHDN} (in), 7 PG (out), 8 ADJ (in), 9 OUT (out), 10 OUT (out), 11 GND (power)

## LTC3203-1
designator IC?
500mA Output Current Low Noise Dual Mode Step-Up Charge Pumps
pins: 1 C2+, 2 VOUT (out), 3 C1+, 4 ~{SHDN} (in), 5 VSEL (in), 6 MODE (in), 7 VIN (in), 8 C2-, 9 GND (power), 10 C1-, 11 EP (power)

## LTC3260HMSE
designator IC?
Low Noise Dual Supply, Inverting Charge Pump
pins: 1 EN+ (in), 2 RT (in), 3 BYP- (in), 4 ADJ- (in), 5 LDO- (out), 6 VOUT (out), 7 C- (in), 8 NC, 9 NC (power), 10 C+ (in), 11 VIN (in), 12 LDO+ (out), 13 EN- (in), 14 MODE (in), 15 ADJ+ (in), 16 BYP+ (in), 17 GND (power)

## LTC3586EUFE-2
designator IC?
High Efficiency USB Power Manager with Boost, Buck-Boost and Dual Bucks
pins: 1 ILIM0 (in), 2 ILIM1 (in), 3 LDO3V3 (power), 4 CLPROG (in), 5 NTC (in), 6 VOUT4 (out), 7 VOUT4 (out), 8 SW4 (out), 9 MODE (in), 10 FB4 (in), 11 FB3 (in), 12 VC3 (out), 13 SWAB3, 14 VIN3 (in), 15 VIN3 (in), 16 VOUT3 (out), 17 VOUT3 (out), 18 EN3 (in), 19 SWCD3, 20 EN2 (in), 21 EN1 (in), 22 VIN4 (in), 23 FB2 (in), 24 VIN2 (in), 25 SW2 (out), 26 SW1 (out), 27 VIN1 (in), 28 FB1 (in), 29 PROG (in), 30 ~{CHRG} (out), 31 GATE (out), 32 BAT (in), 33 EN4 (in), 34 VOUT (out), 35 VBUS (in), 36 VBUS (in), 37 SW (out), 38 ~{FAULT} (out), 39 GND (power)

## LTC3634HUFD
designator IC?
3.6V-15V to 15V Dual 3A Monolithic Step-Down Regulator for DDR Power
pins: 1 PGOOD1 (out), 2 PHMODE (in), 3 RUN1 (in), 4 MODE/SYNC (in), 5 RT (in), 6 RUN2 (in), 7 SGND (power), 8 PGOOD2 (out), 9 VFB2 (in), 10 VDDQIN (in), 11 ITH2 (out), 12 VON2 (in), 13 SW2 (out), 14 SW2 (out), 15 VIN2 (in), 16 VIN2 (in), 17 BOOST2 (in), 18 VTTR (out), 19 INTVCC (out), 20 BOOST1 (in), 21 VIN1 (in), 22 VIN1 (in), 23 SW1 (out), 24 SW1 (out), 25 VON1 (in), 26 ITH1 (out), 27 TRACKSS (in), 28 VFB1 (in), 29 PGND (power)

## LTC3810EG
designator IC?
Current Mode Synchronous Switching Regulator Controller
pins: 1 ION (in), 2 NC, 3 NC, 4 VON (in), 5 VRNG (in), 6 PGOOD (out), 7 MODE/SYNC (in), 8 ITH, 9 VFB (in), 10 PLL/LPF (out), 11 SS/TRACK (in), 12 SGND (power), 13 ~{SHDN} (in), 14 UVIN (in), 15 NDRV (out), 16 EXTVCC (in), 17 INTVCC (power), 18 DRVCC (in), 19 BG (out), 20 BGRTN (in), 21 SENSE- (in), 22 NC, 23 NC, 24 NC, 25 SENSE+ (in), 26 SW (in), 27 TG (out), 28 BOOST (in)

## LTC3810EUH
designator IC?
Current Mode Synchronous Switching Regulator Controller
pins: 1 NC, 2 VON (in), 3 VRNG (in), 4 PGOOD (out), 5 MODE/SYNC (in), 6 ITH, 7 VFB (in), 8 PLL/LPF (out), 9 SS/TRACK (in), 10 NC, 11 NC, 12 ~{SHDN} (in), 13 UVIN (in), 14 NDRV (out), 15 EXTVCC (in), 16 INTVCC (power), 17 DRVCC (in), 18 BG (out), 19 BGRTN (in), 20 SENSE- (in), 21 NC, 22 NC, 23 NC, 24 SENSE+ (in), 25 SW (in), 26 TG (out), 27 BOOST (in), 28 NC, 29 NC, 30 NC, 31 ION (in), 32 NC, 33 SGND (power)

## LTC3870EUFD
designator IC?
PolyPhase Step-Down Slave Controller for Digital Power System Management
part A pins: 2 ISENSE0+ (in), 3 ISENSE0- (in), 4 RUN0 (in), 21 BG0 (out), 22 BOOST0, 23 SW0, 24 TG0 (out), 28 ITH0
part B pins: 5 RUN1 (in), 6 ISENSE1- (in), 7 ISENSE1+ (in), 9 ITH1, 13 TG1 (out), 14 SW1, 15 BOOST1, 16 BG1 (out)
part C pins: 1 MODE0 (in), 8 MODE1 (in), 10 ILIM (in), 11 SYNC (in), 12 PHASMD (in), 17 INTVCC (power), 18 EXTVCC (power), 19 PGND (power), 20 VIN (power), 25 ~{FAULT1} (in), 26 ~{FAULT0} (in), 27 FREQ (in), 29 SGND (power)

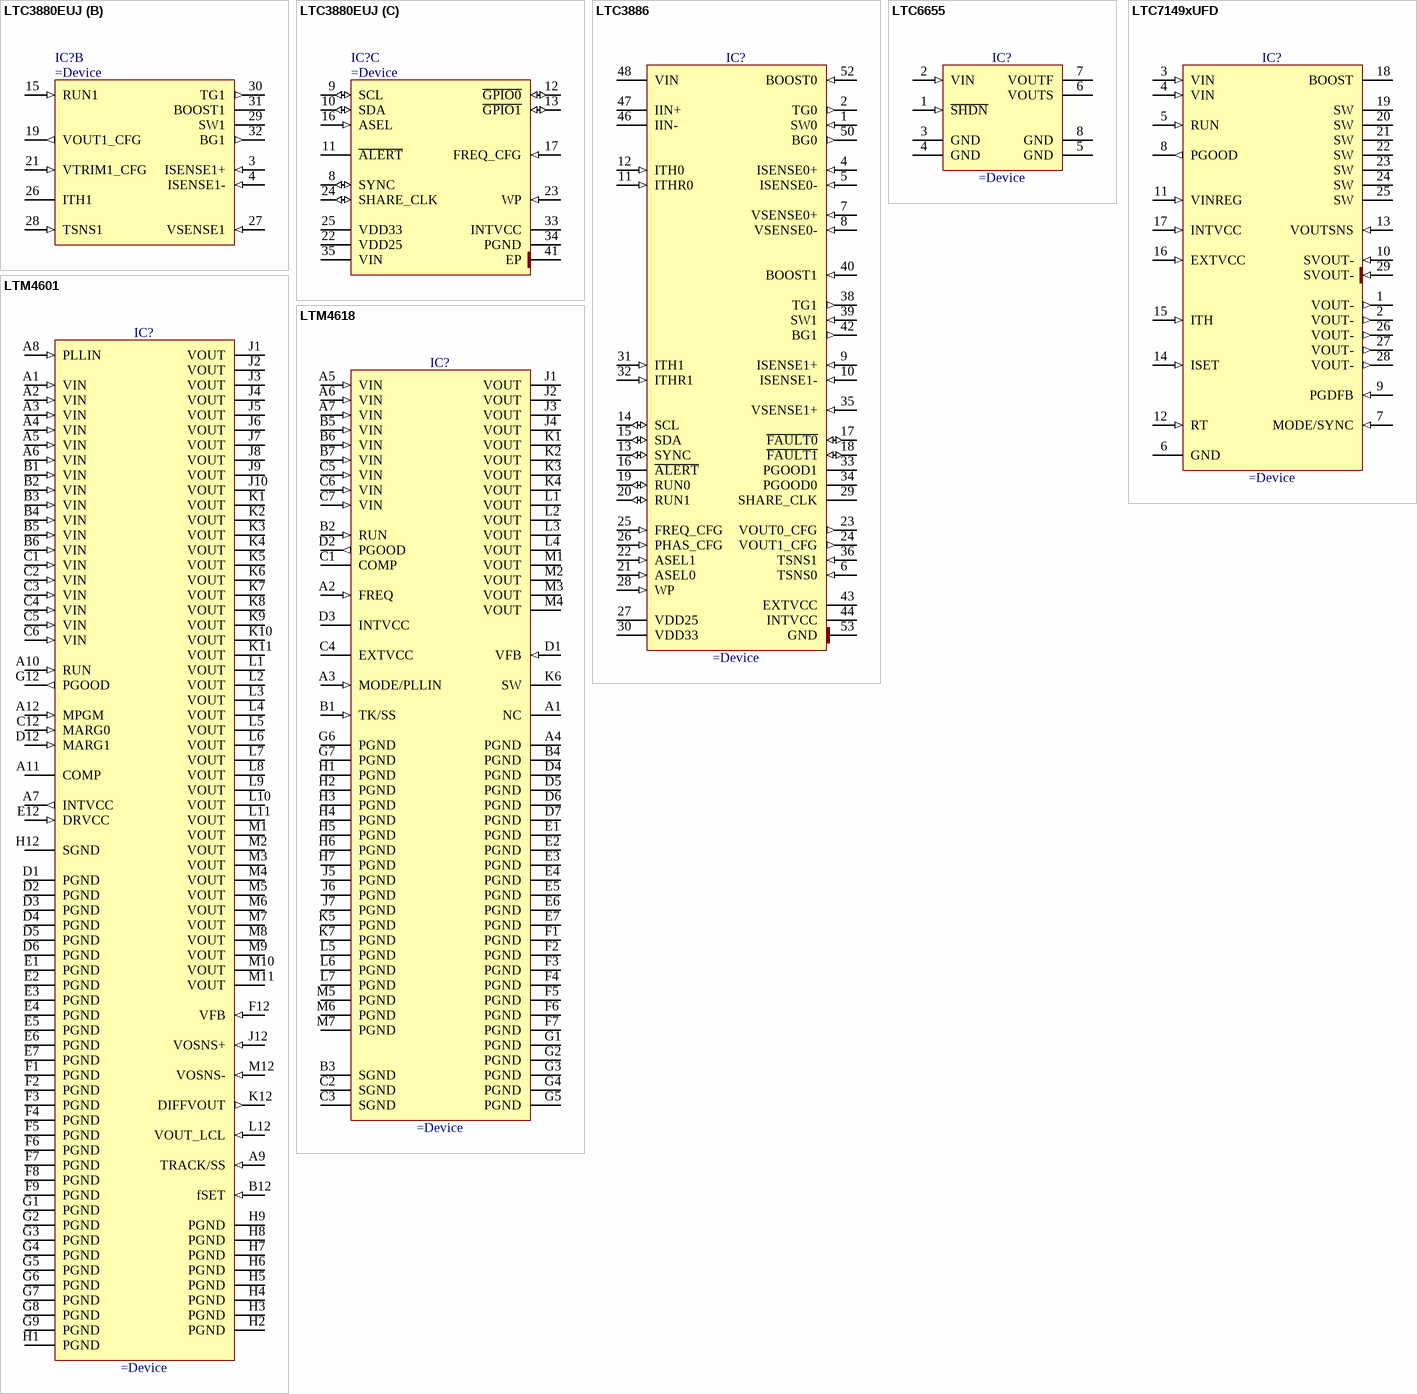
[diagram p5: symbols LTC3880EUJ to LTM4618]